# Altium schematic symbol library MCU_ST_STM32H7.SchLib: 225 symbols (part 4 of 9)
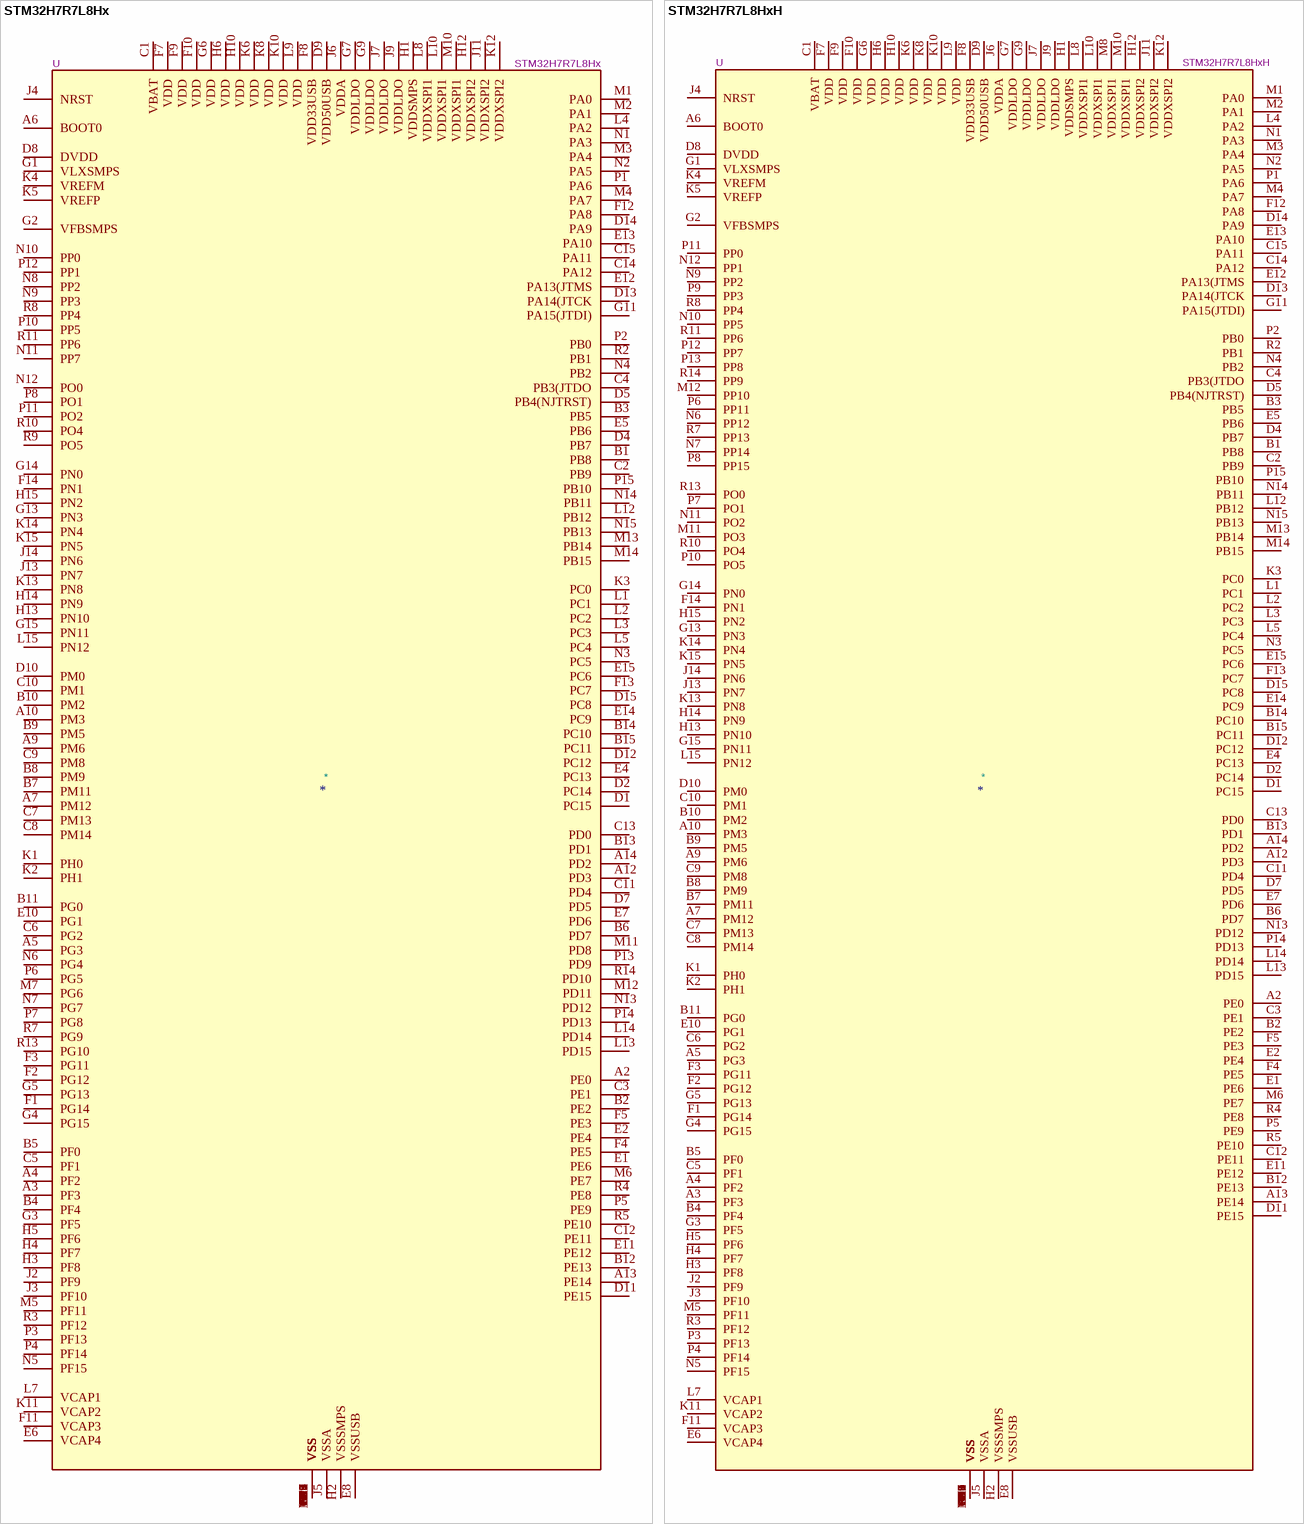
[diagram p90: symbols STM32H7R7L8Hx to STM32H7R7L8HxH]

## STM32H7R7L8HxH
designator *  value STM32H7R7L8HxH  Reference: U
STMicroelectronics Arm Cortex-M7 MCU, 64KB flash, 620KB RAM, 150 GPIO, TFBGA225 HEXA SMPS; ki_keywords: Arm Cortex-M7 STM32H7 STM32H7R7/7S7; ki_fp_filters: ST*TFBGA*13x13mm*Layout15x15*P0.8mm*; Footprint: Package_BGA:ST_TFBGA-225_13x13mm_Layout15x15_P0.8mm; Datasheet: https://www.st.com/resource/en/datasheet/stm32h7r7l8.pdf; Description_: STMicroelectronics Arm Cortex-M7 MCU, 64KB flash, 620KB RAM, 150 GPIO, TFBGA225 HEXA SMPS
pins: A1 VSS, A2 PE0, A3 PF3, A4 PF2, A5 PG3, A6 BOOT0, A7 PM12, A8 VSS, A9 PM6, A10 PM3, A11 VSS, A12 PD3, A13 PE14, A14 PD2, A15 VSS, B1 PB8, B2 PE2, B3 PB5, B4 PF4, B5 PF0, B6 PD7, B7 PM11, B8 PM9, B9 PM5, B10 PM2, B11 PG0, B12 PE13, B13 PD1, B14 PC10, B15 PC11, C1 VBAT, C2 PB9, C3 PE1, C4 PB3(JTDO, C5 PF1, C6 PG2, C7 PM13, C8 PM14, C9 PM8, C10 PM1, C11 PD4, C12 PE11, C13 PD0, C14 PA12, C15 PA11, D1 PC15, D2 PC14, D3 VSS, D4 PB7, D5 PB4(NJTRST), D6 VSS, D7 PD5, D8 DVDD, D9 VDD50USB, D10 PM0, D11 PE15, D12 PC12, D13 PA14(JTCK, D14 PA9, D15 PC8, E1 PE6, E2 PE4, E3 VSS, E4 PC13, E5 PB6, E6 VCAP4, E7 PD6, E8 VSSUSB, E9 VSS, E10 PG1, E11 PE12, E12 PA13(JTMS, E13 PA10, E14 PC9, E15 PC6, F1 PG14, F2 PG12, F3 PG11, F4 PE5, F5 PE3, F6 VSS, F7 VDD, F8 VDD33USB, F9 VDD, F10 VDD, F11 VCAP3, F12 PA8, F13 PC7, F14 PN1, F15 VSS, G1 VLXSMPS, G2 VFBSMPS, G3 PF5, G4 PG15, G5 PG13, G6 VDD, G7 VDDLDO, G8 VSS, G9 VDDLDO, G10 VSS, G11 PA15(JTDI), G12 VSS, G13 PN3, G14 PN0, G15 PN11, H1 VDDSMPS, H2 VSSSMPS, H3 PF8, H4 PF7, H5 PF6, H6 VDD, H7 VSS, H8 VSS, H9 VSS, H10 VDD, H11 VSS, H12 VDDXSPI2, H13 PN10, H14 PN9, H15 PN2, J1 VSS, J2 PF9, J3 PF10, J4 NRST, J5 VSSA, J6 VDDA, J7 VDDLDO, J8 VSS, J9 VDDLDO, J10 VSS, J11 VDDXSPI2, J12 VSS, J13 PN7, J14 PN6, J15 VSS, K1 PH0, K2 PH1, K3 PC0, K4 VREFM, K5 VREFP, K6 VDD, K7 VSS, K8 VDD, K9 VSS, K10 VDD, K11 VCAP2, K12 VDDXSPI2, K13 PN8, K14 PN4, K15 PN5, L1 PC1, L2 PC2, L3 PC3, L4 PA2, L5 PC4, L6 VSS, L7 VCAP1, L8 VDDXSPI1, L9 VDD, L10 VDDXSPI1, L11 VSS, L12 PB12, L13 PD15, L14 PD14, L15 PN12, M1 PA0, M2 PA1, M3 PA4, M4 PA7, M5 PF11, M6 PE7, M7 VSS, M8 VDDXSPI1, M9 VSS, M10 VDDXSPI1, M11 PO3, M12 PP10, M13 PB14, M14 PB15, M15 VSS, N1 PA3, N2 PA5, N3 PC5, N4 PB2, N5 PF15, N6 PP12, N7 PP14, N8 VSS, N9 PP2, N10 PP5, N11 PO2, N12 PP1, N13 PD12, N14 PB11, N15 PB13, P1 PA6, P2 PB0, P3 PF13, P4 PF14, P5 PE9, P6 PP11, P7 PO1, P8 PP15, P9 PP3, P10 PO5, P11 PP0, P12 PP7, P13 PP8, P14 PD13, P15 PB10, R1 VSS, R2 PB1, R3 PF12, R4 PE8, R5 PE10, R6 VSS, R7 PP13, R8 PP4, R9 VSS, R10 PO4, R11 PP6, R12 VSS, R13 PO0, R14 PP9, R15 VSS

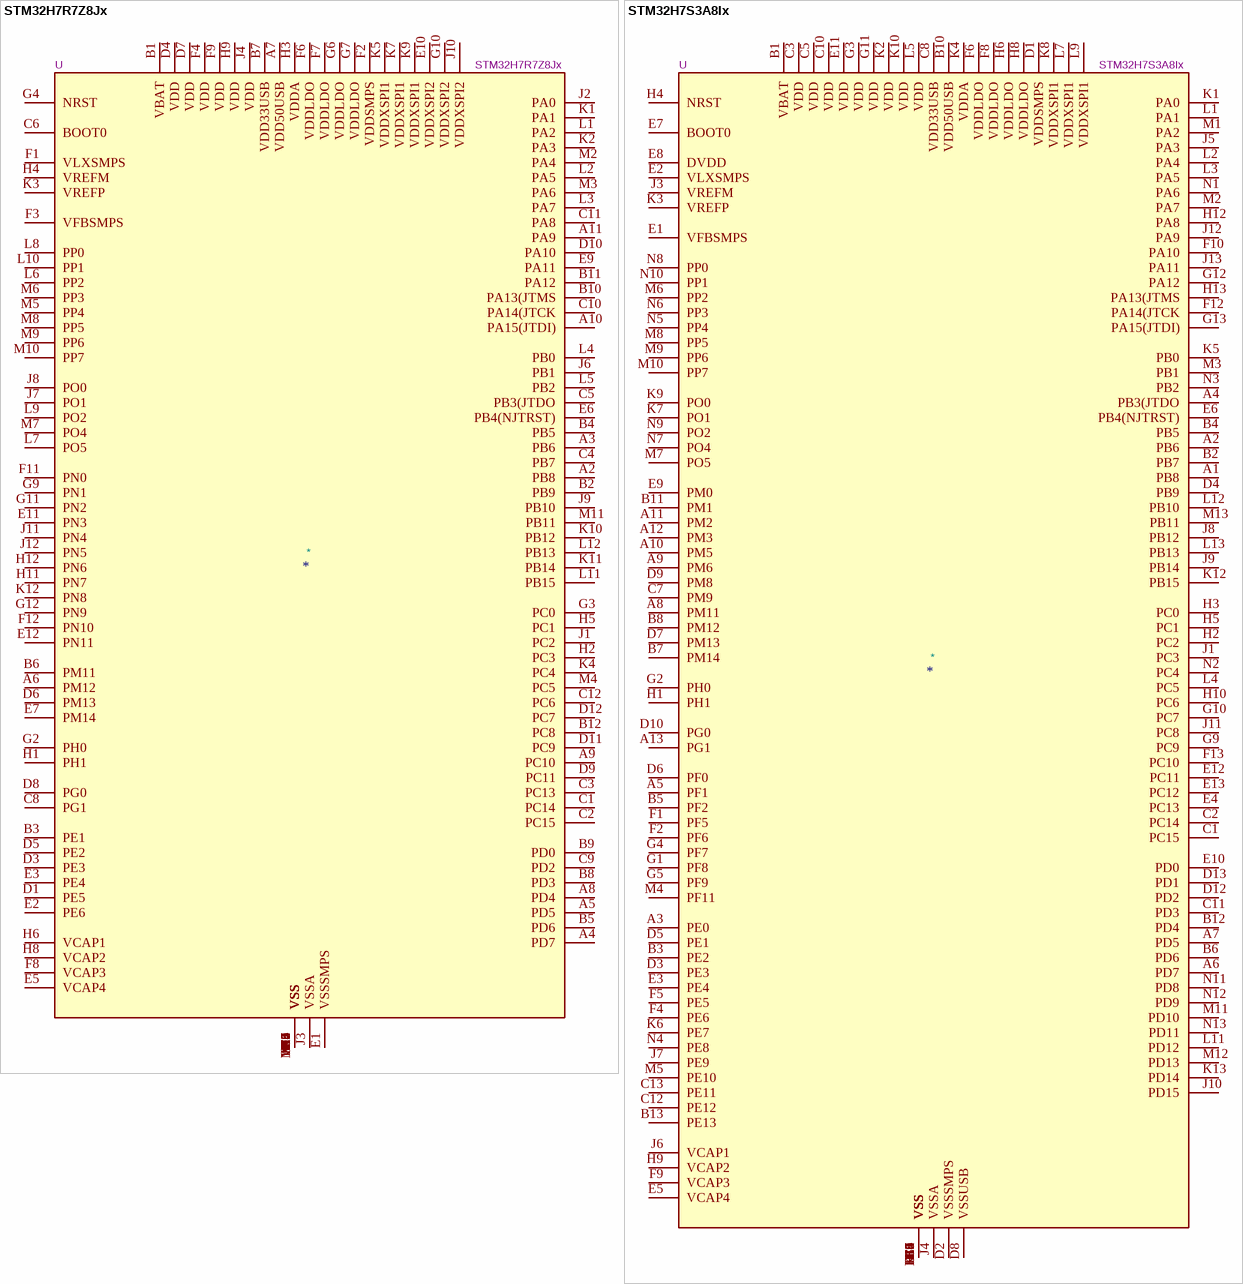
[diagram p30: symbols STM32H7R7Z8Jx to STM32H7S3A8Ix]

## STM32H7R7Z8Jx
designator *  value STM32H7R7Z8Jx  Reference: U
STMicroelectronics Arm Cortex-M7 MCU, 64KB flash, 620KB RAM, 600 MHz, 93 GPIO, UFBGA144; ki_keywords: Arm Cortex-M7 STM32H7 STM32H7R7/7S7; ki_fp_filters: UFBGA*10x10mm*Layout12x12*P0.8mm*; Footprint: Package_BGA:UFBGA-144_10x10mm_Layout12x12_P0.8mm; Datasheet: https://www.st.com/resource/en/datasheet/stm32h7r7z8.pdf; Description_: STMicroelectronics Arm Cortex-M7 MCU, 64KB flash, 620KB RAM, 600 MHz, 93 GPIO, UFBGA144
pins: A1 VSS, A2 PB8, A3 PB6, A4 PD7, A5 PD5, A6 PM12, A7 VDD50USB, A8 PD4, A9 PC10, A10 PA15(JTDI), A11 PA9, A12 VSS, B1 VBAT, B2 PB9, B3 PE1, B4 PB5, B5 PD6, B6 PM11, B7 VDD33USB, B8 PD3, B9 PD0, B10 PA13(JTMS, B11 PA12, B12 PC8, C1 PC14, C2 PC15, C3 PC13, C4 PB7, C5 PB3(JTDO, C6 BOOT0, C7 VSS, C8 PG1, C9 PD2, C10 PA14(JTCK, C11 PA8, C12 PC6, D1 PE5, D2 VSS, D3 PE3, D4 VDD, D5 PE2, D6 PM13, D7 VDD, D8 PG0, D9 PC11, D10 PA10, D11 PC9, D12 PC7, E1 VSSSMPS, E2 PE6, E3 PE4, E4 VSS, E5 VCAP4, E6 PB4(NJTRST), E7 PM14, E8 VSS, E9 PA11, E10 VDDXSPI2, E11 PN3, E12 PN11, F1 VLXSMPS, F2 VDDSMPS, F3 VFBSMPS, F4 VDD, F5 VSS, F6 VDDLDO, F7 VDDLDO, F8 VCAP3, F9 VDD, F10 VSS, F11 PN0, F12 PN10, G1 VSS, G2 PH0, G3 PC0, G4 NRST, G5 VSS, G6 VDDLDO, G7 VDDLDO, G8 VSS, G9 PN1, G10 VDDXSPI2, G11 PN2, G12 PN9, H1 PH1, H2 PC3, H3 VDDA, H4 VREFM, H5 PC1, H6 VCAP1, H7 VSS, H8 VCAP2, H9 VDD, H10 VSS, H11 PN7, H12 PN6, J1 PC2, J2 PA0, J3 VSSA, J4 VDD, J5 VSS, J6 PB1, J7 PO1, J8 PO0, J9 PB10, J10 VDDXSPI2, J11 PN4, J12 PN5, K1 PA1, K2 PA3, K3 VREFP, K4 PC4, K5 VDDXSPI1, K6 VSS, K7 VDDXSPI1, K8 VSS, K9 VDDXSPI1, K10 PB12, K11 PB14, K12 PN8, L1 PA2, L2 PA5, L3 PA7, L4 PB0, L5 PB2, L6 PP2, L7 PO5, L8 PP0, L9 PO2, L10 PP1, L11 PB15, L12 PB13, M1 VSS, M2 PA4, M3 PA6, M4 PC5, M5 PP4, M6 PP3, M7 PO4, M8 PP5, M9 PP6, M10 PP7, M11 PB11, M12 VSS

## STM32H7S3A8Ix
designator *  value STM32H7S3A8Ix  Reference: U
STMicroelectronics Arm Cortex-M7 MCU, 64KB flash, 620KB RAM, 600 MHz, 3.6-3.6V, 116 GPIO, UFBGA169; ki_keywords: Arm Cortex-M7 STM32H7 STM32H7R3/7S3; ki_fp_filters: UFBGA*7x7mm*Layout13x13*P0.5mm*; Footprint: Package_BGA:UFBGA-169_7x7mm_Layout13x13_P0.5mm; Datasheet: https://www.st.com/resource/en/datasheet/stm32h7s3a8.pdf; Description_: STMicroelectronics Arm Cortex-M7 MCU, 64KB flash, 620KB RAM, 600 MHz, 3.6-3.6V, 116 GPIO, UFBGA169
pins: A1 PB8, A2 PB6, A3 PE0, A4 PB3(JTDO, A5 PF1, A6 PD7, A7 PD5, A8 PM11, A9 PM6, A10 PM5, A11 PM2, A12 PM3, A13 PG1, B1 VBAT, B2 PB7, B3 PE2, B4 PB5, B5 PF2, B6 PD6, B7 PM14, B8 PM12, B9 VSS, B10 VDD50USB, B11 PM1, B12 PD4, B13 PE13, C1 PC15, C2 PC14, C3 VDD, C4 VSS, C5 VDD, C6 VSS, C7 PM9, C8 VDD33USB, C9 VSS, C10 VDD, C11 PD3, C12 PE12, C13 PE11, D1 VDDSMPS, D2 VSSSMPS, D3 PE3, D4 PB9, D5 PE1, D6 PF0, D7 PM13, D8 VSSUSB, D9 PM8, D10 PG0, D11 VSS, D12 PD2, D13 PD1, E1 VFBSMPS, E2 VLXSMPS, E3 PE4, E4 PC13, E5 VCAP4, E6 PB4(NJTRST), E7 BOOT0, E8 DVDD, E9 PM0, E10 PD0, E11 VDD, E12 PC11, E13 PC12, F1 PF5, F2 PF6, F3 VSS, F4 PE6, F5 PE5, F6 VDDLDO, F7 VSS, F8 VDDLDO, F9 VCAP3, F10 PA10, F11 VSS, F12 PA14(JTCK, F13 PC10, G1 PF8, G2 PH0, G3 VDD, G4 PF7, G5 PF9, G6 VSS, G7 VSS, G8 VSS, G9 PC9, G10 PC7, G11 VDD, G12 PA12, G13 PA15(JTDI), H1 PH1, H2 PC2, H3 PC0, H4 NRST, H5 PC1, H6 VDDLDO, H7 VSS, H8 VDDLDO, H9 VCAP2, H10 PC6, H11 VSS, H12 PA8, H13 PA13(JTMS, J1 PC3, J2 VSS, J3 VREFM, J4 VSSA, J5 PA3, J6 VCAP1, J7 PE9, J8 PB12, J9 PB14, J10 PD15, J11 PC8, J12 PA9, J13 PA11, K1 PA0, K2 VDD, K3 VREFP, K4 VDDA, K5 PB0, K6 PE7, K7 PO1, K8 VDDXSPI1, K9 PO0, K10 VDD, K11 VSS, K12 PB15, K13 PD14, L1 PA1, L2 PA4, L3 PA5, L4 PC5, L5 VDD, L6 VSS, L7 VDDXSPI1, L8 VSS, L9 VDDXSPI1, L10 VSS, L11 PD12, L12 PB10, L13 PB13, M1 PA2, M2 PA7, M3 PB1, M4 PF11, M5 PE10, M6 PP2, M7 PO5, M8 PP5, M9 PP6, M10 PP7, M11 PD10, M12 PD13, M13 PB11, N1 PA6, N2 PC4, N3 PB2, N4 PE8, N5 PP4, N6 PP3, N7 PO4, N8 PP0, N9 PO2, N10 PP1, N11 PD8, N12 PD9, N13 PD11

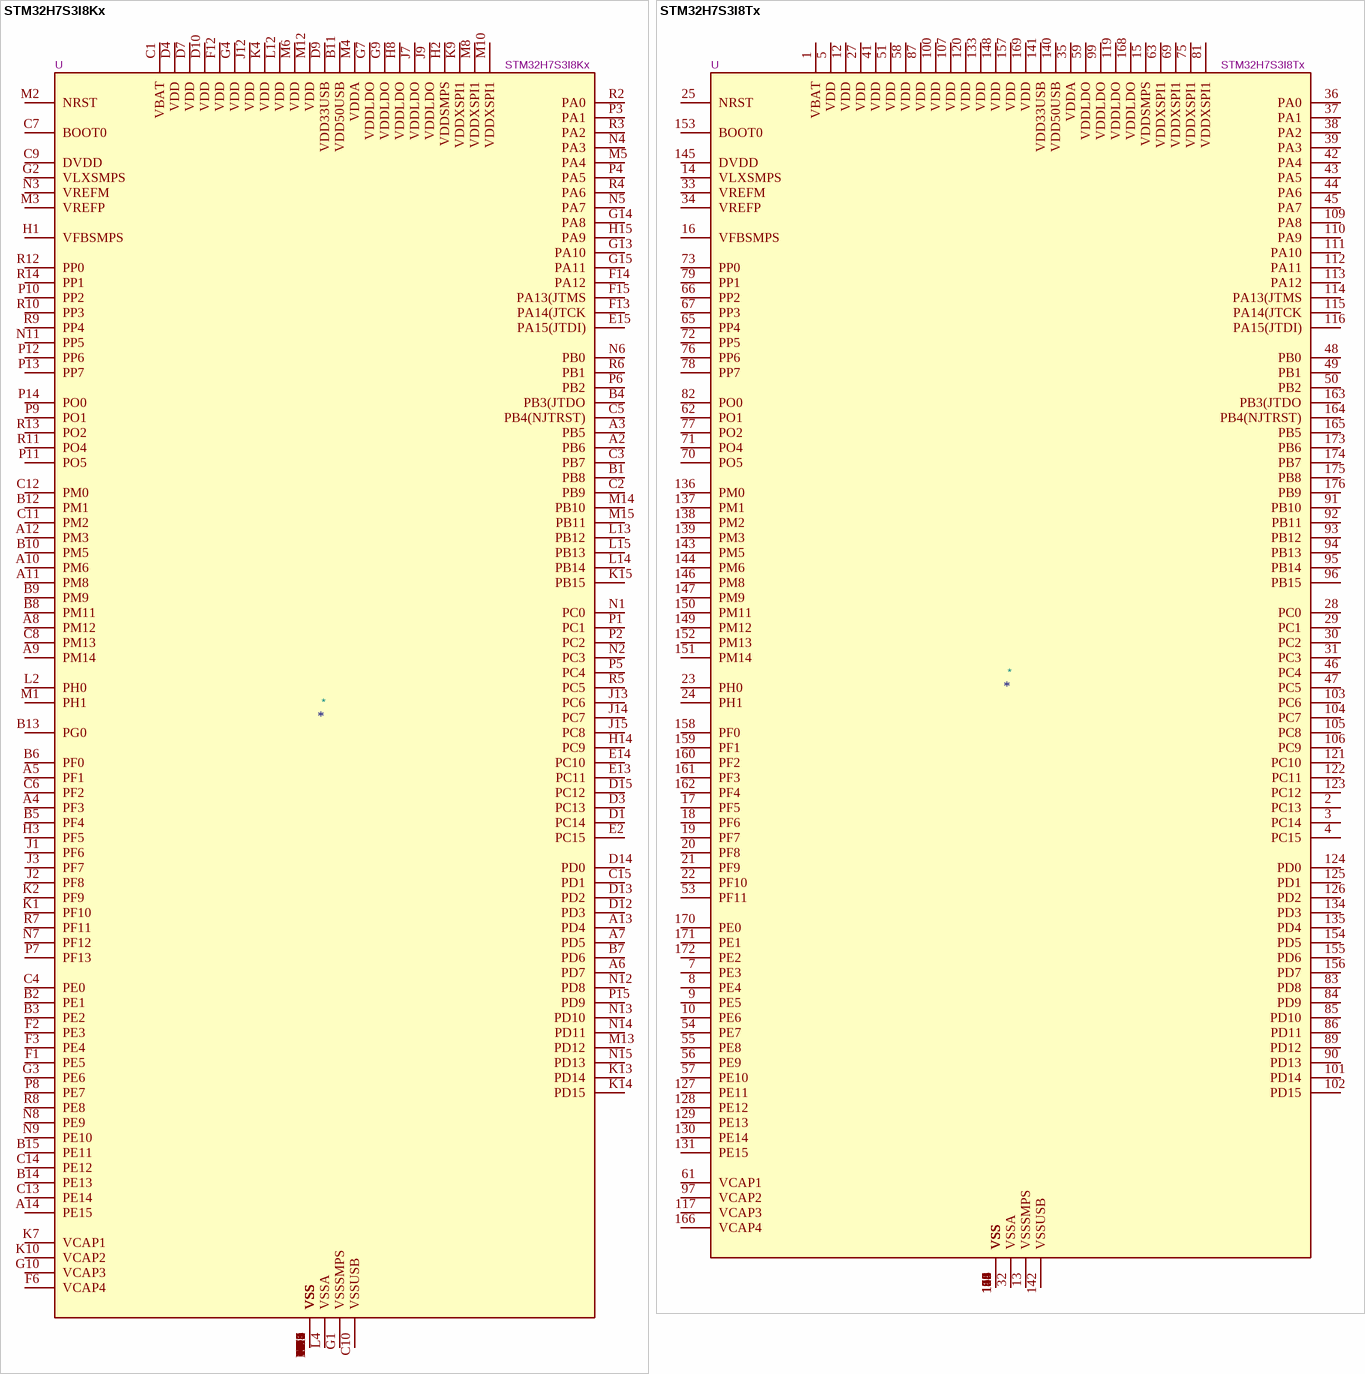
[diagram p31: symbols STM32H7S3I8Kx to STM32H7S3I8Tx]

## STM32H7S3I8Kx
designator *  value STM32H7S3I8Kx  Reference: U
STMicroelectronics Arm Cortex-M7 MCU, 64KB flash, 620KB RAM, 600 MHz, 3.6-3.6V, 122 GPIO, UFBGA176; ki_keywords: Arm Cortex-M7 STM32H7 STM32H7R3/7S3; ki_fp_filters: UFBGA*10x10mm*Layout15x15*P0.65mm*; Footprint: Package_BGA:UFBGA-201_10x10mm_Layout15x15_P0.65mm; Datasheet: https://www.st.com/resource/en/datasheet/stm32h7s3i8.pdf; Description_: STMicroelectronics Arm Cortex-M7 MCU, 64KB flash, 620KB RAM, 600 MHz, 3.6-3.6V, 122 GPIO, UFBGA176
pins: A1 VSS, A2 PB6, A3 PB5, A4 PF3, A5 PF1, A6 PD7, A7 PD5, A8 PM12, A9 PM14, A10 PM6, A11 PM8, A12 PM3, A13 PD4, A14 PE15, A15 VSS, B1 PB8, B2 PE1, B3 PE2, B4 PB3(JTDO, B5 PF4, B6 PF0, B7 PD6, B8 PM11, B9 PM9, B10 PM5, B11 VDD50USB, B12 PM1, B13 PG0, B14 PE13, B15 PE11, C1 VBAT, C2 PB9, C3 PB7, C4 PE0, C5 PB4(NJTRST), C6 PF2, C7 BOOT0, C8 PM13, C9 DVDD, C10 VSSUSB, C11 PM2, C12 PM0, C13 PE14, C14 PE12, C15 PD1, D1 PC14, D2 VSS, D3 PC13, D4 VDD, D5 VSS, D6 VSS, D7 VDD, D8 VSS, D9 VDD33USB, D10 VDD, D11 VSS, D12 PD3, D13 PD2, D14 PD0, D15 PC12, E1 VSS, E2 PC15, E3 VSS, E4 VSS, E12 VSS, E13 PC11, E14 PC10, E15 PA15(JTDI), F1 PE5, F2 PE3, F3 PE4, F4 VSS, F6 VCAP4, F7 VSS, F8 VSS, F9 VSS, F10 VSS, F12 VDD, F13 PA14(JTCK, F14 PA12, F15 PA13(JTMS, G1 VSSSMPS, G2 VLXSMPS, G3 PE6, G4 VDD, G6 VSS, G7 VDDLDO, G8 VSS, G9 VDDLDO, G10 VCAP3, G12 VSS, G13 PA10, G14 PA8, G15 PA11, H1 VFBSMPS, H2 VDDSMPS, H3 PF5, H4 VSS, H6 VSS, H7 VSS, H8 VDDLDO, H9 VSS, H10 VSS, H12 VSS, H13 VSS, H14 PC9, H15 PA9, J1 PF6, J2 PF8, J3 PF7, J4 VSS, J6 VSS, J7 VDDLDO, J8 VSS, J9 VDDLDO, J10 VSS, J12 VDD, J13 PC6, J14 PC7, J15 PC8, K1 PF10, K2 PF9, K3 VSS, K4 VDD, K6 VSS, K7 VCAP1, K8 VSS, K9 VDDXSPI1, K10 VCAP2, K12 VSS, K13 PD14, K14 PD15, K15 PB15, L1 VSS, L2 PH0, L3 VSS, L4 VSSA, L12 VDD, L13 PB12, L14 PB14, L15 PB13, M1 PH1, M2 NRST, M3 VREFP, M4 VDDA, M5 PA4, M6 VDD, M7 VSS, M8 VDDXSPI1, M9 VSS, M10 VDDXSPI1, M11 VSS, M12 VDD, M13 PD12, M14 PB10, M15 PB11, N1 PC0, N2 PC3, N3 VREFM, N4 PA3, N5 PA7, N6 PB0, N7 PF12, N8 PE9, N9 PE10, N10 VSS, N11 PP5, N12 PD8, N13 PD10, N14 PD11, N15 PD13, P1 PC1, P2 PC2, P3 PA1, P4 PA5, P5 PC4, P6 PB2, P7 PF13, P8 PE7, P9 PO1, P10 PP2, P11 PO5, P12 PP6, P13 PP7, P14 PO0, P15 PD9, R1 VSS, R2 PA0, R3 PA2, R4 PA6, R5 PC5, R6 PB1, R7 PF11, R8 PE8, R9 PP4, R10 PP3, R11 PO4, R12 PP0, R13 PO2, R14 PP1, R15 VSS

## STM32H7S3I8Tx
designator *  value STM32H7S3I8Tx  Reference: U
STMicroelectronics Arm Cortex-M7 MCU, 64KB flash, 620KB RAM, 119 GPIO, LQFP176; ki_keywords: Arm Cortex-M7 STM32H7 STM32H7R3/7S3; ki_fp_filters: LQFP*24x24mm*P0.5mm*; Footprint: Package_QFP:LQFP-176_24x24mm_P0.5mm; Datasheet: https://www.st.com/resource/en/datasheet/stm32h7s3i8.pdf; Description_: STMicroelectronics Arm Cortex-M7 MCU, 64KB flash, 620KB RAM, 119 GPIO, LQFP176
pins: 1 VBAT, 2 PC13, 3 PC14, 4 PC15, 5 VDD, 6 VSS, 7 PE3, 8 PE4, 9 PE5, 10 PE6, 11 VSS, 12 VDD, 13 VSSSMPS, 14 VLXSMPS, 15 VDDSMPS, 16 VFBSMPS, 17 PF5, 18 PF6, 19 PF7, 20 PF8, 21 PF9, 22 PF10, 23 PH0, 24 PH1, 25 NRST, 26 VSS, 27 VDD, 28 PC0, 29 PC1, 30 PC2, 31 PC3, 32 VSSA, 33 VREFM, 34 VREFP, 35 VDDA, 36 PA0, 37 PA1, 38 PA2, 39 PA3, 40 VSS, 41 VDD, 42 PA4, 43 PA5, 44 PA6, 45 PA7, 46 PC4, 47 PC5, 48 PB0, 49 PB1, 50 PB2, 51 VDD, 52 VSS, 53 PF11, 54 PE7, 55 PE8, 56 PE9, 57 PE10, 58 VDD, 59 VDDLDO, 60 VSS, 61 VCAP1, 62 PO1, 63 VDDXSPI1, 64 VSS, 65 PP4, 66 PP2, 67 PP3, 68 VSS, 69 VDDXSPI1, 70 PO5, 71 PO4, 72 PP5, 73 PP0, 74 VSS, 75 VDDXSPI1, 76 PP6, 77 PO2, 78 PP7, 79 PP1, 80 VSS, 81 VDDXSPI1, 82 PO0, 83 PD8, 84 PD9, 85 PD10, 86 PD11, 87 VDD, 88 VSS, 89 PD12, 90 PD13, 91 PB10, 92 PB11, 93 PB12, 94 PB13, 95 PB14, 96 PB15, 97 VCAP2, 98 VSS, 99 VDDLDO, 100 VDD, 101 PD14, 102 PD15, 103 PC6, 104 PC7, 105 PC8, 106 PC9, 107 VDD, 108 VSS, 109 PA8, 110 PA9, 111 PA10, 112 PA11, 113 PA12, 114 PA13(JTMS, 115 PA14(JTCK, 116 PA15(JTDI), 117 VCAP3, 118 VSS, 119 VDDLDO, 120 VDD, 121 PC10, 122 PC11, 123 PC12, 124 PD0, 125 PD1, 126 PD2, 127 PE11, 128 PE12, 129 PE13, 130 PE14, 131 PE15, 132 VSS, 133 VDD, 134 PD3, 135 PD4, 136 PM0, 137 PM1, 138 PM2, 139 PM3, 140 VDD50USB, 141 VDD33USB, 142 VSSUSB, 143 PM5, 144 PM6, 145 DVDD, 146 PM8, 147 PM9, 148 VDD, 149 PM12, 150 PM11, 151 PM14, 152 PM13, 153 BOOT0, 154 PD5, 155 PD6, 156 PD7, 157 VDD, 158 PF0, 159 PF1, 160 PF2, 161 PF3, 162 PF4, 163 PB3(JTDO, 164 PB4(NJTRST), 165 PB5, 166 VCAP4, 167 VSS, 168 VDDLDO, 169 VDD, 170 PE0, 171 PE1, 172 PE2, 173 PB6, 174 PB7, 175 PB8, 176 PB9

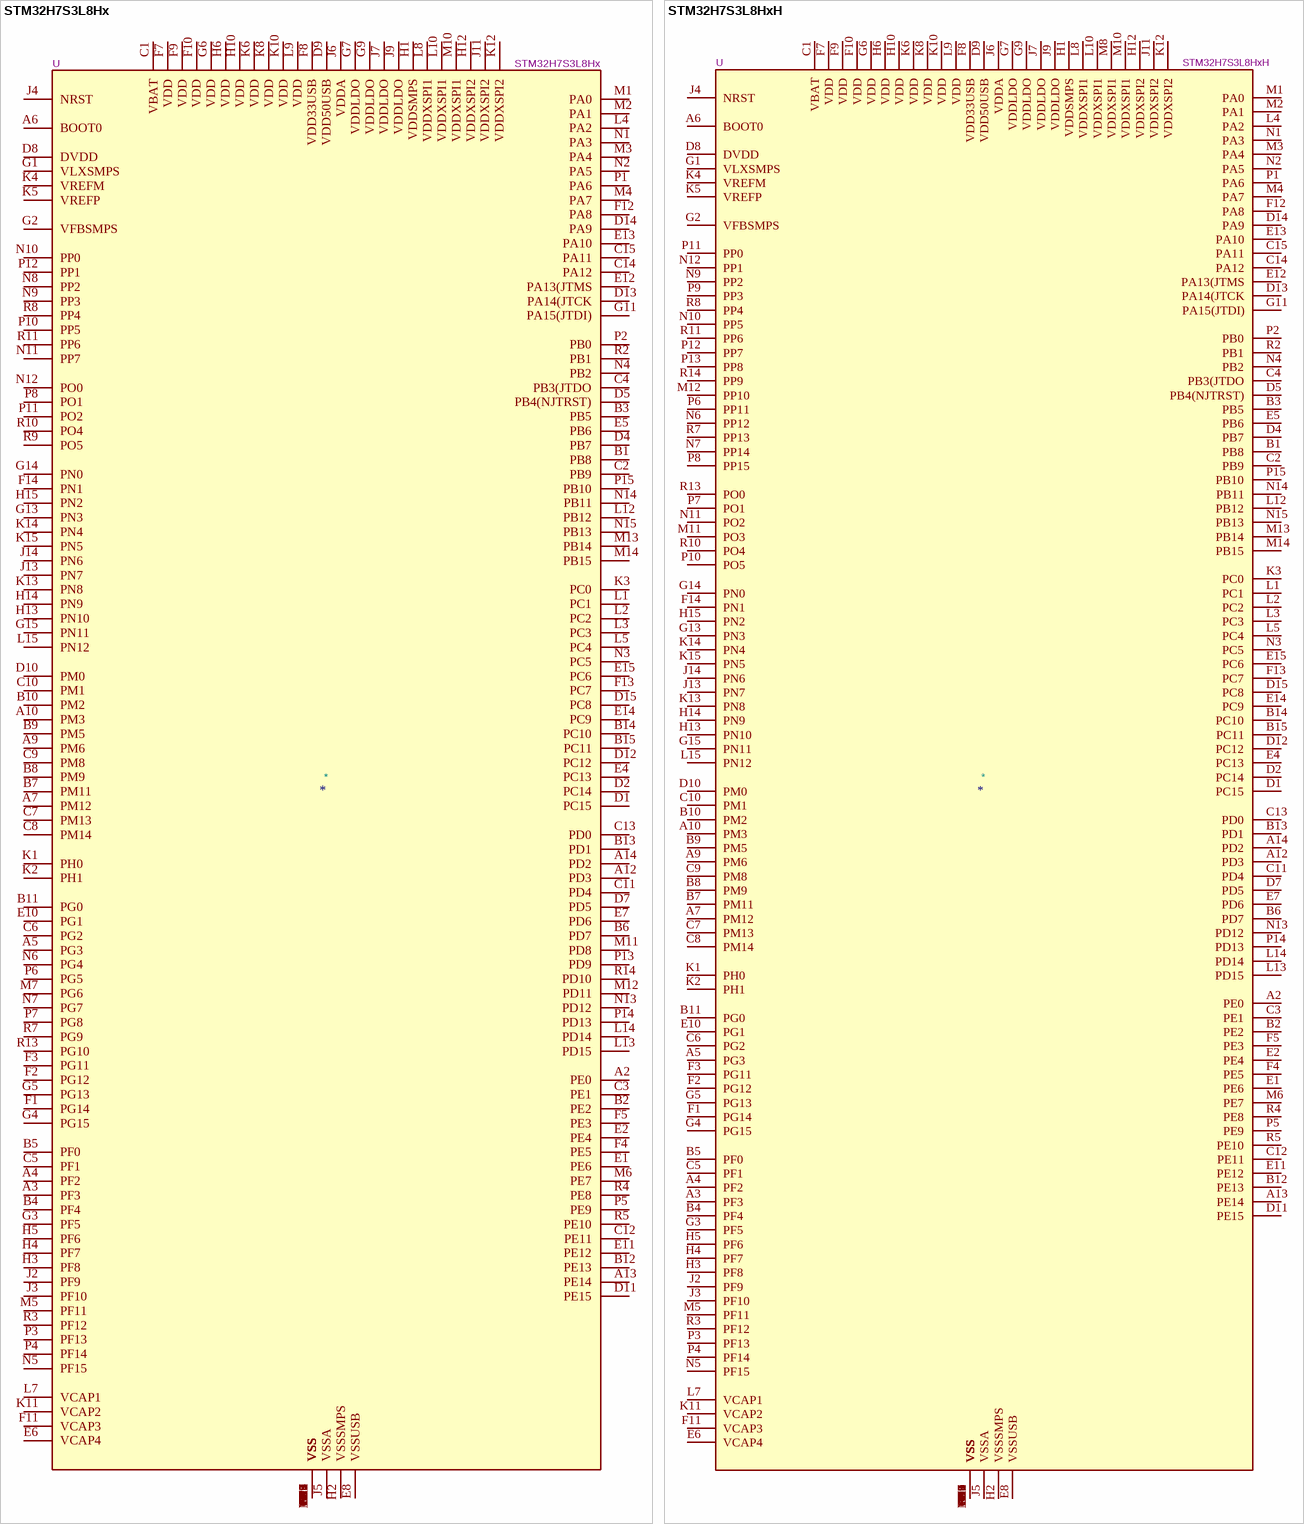
[diagram p32: symbols STM32H7S3L8Hx to STM32H7S3L8HxH]

## STM32H7S3L8Hx
designator *  value STM32H7S3L8Hx  Reference: U
STMicroelectronics Arm Cortex-M7 MCU, 64KB flash, 620KB RAM, 152 GPIO, TFBGA225 OCTO SMPS; ki_keywords: Arm Cortex-M7 STM32H7 STM32H7R3/7S3; ki_fp_filters: ST*TFBGA*13x13mm*Layout15x15*P0.8mm*; Footprint: Package_BGA:ST_TFBGA-225_13x13mm_Layout15x15_P0.8mm; Datasheet: https://www.st.com/resource/en/datasheet/stm32h7s3l8.pdf; Description_: STMicroelectronics Arm Cortex-M7 MCU, 64KB flash, 620KB RAM, 152 GPIO, TFBGA225 OCTO SMPS
pins: A1 VSS, A2 PE0, A3 PF3, A4 PF2, A5 PG3, A6 BOOT0, A7 PM12, A8 VSS, A9 PM6, A10 PM3, A11 VSS, A12 PD3, A13 PE14, A14 PD2, A15 VSS, B1 PB8, B2 PE2, B3 PB5, B4 PF4, B5 PF0, B6 PD7, B7 PM11, B8 PM9, B9 PM5, B10 PM2, B11 PG0, B12 PE13, B13 PD1, B14 PC10, B15 PC11, C1 VBAT, C2 PB9, C3 PE1, C4 PB3(JTDO, C5 PF1, C6 PG2, C7 PM13, C8 PM14, C9 PM8, C10 PM1, C11 PD4, C12 PE11, C13 PD0, C14 PA12, C15 PA11, D1 PC15, D2 PC14, D3 VSS, D4 PB7, D5 PB4(NJTRST), D6 VSS, D7 PD5, D8 DVDD, D9 VDD50USB, D10 PM0, D11 PE15, D12 PC12, D13 PA14(JTCK, D14 PA9, D15 PC8, E1 PE6, E2 PE4, E3 VSS, E4 PC13, E5 PB6, E6 VCAP4, E7 PD6, E8 VSSUSB, E9 VSS, E10 PG1, E11 PE12, E12 PA13(JTMS, E13 PA10, E14 PC9, E15 PC6, F1 PG14, F2 PG12, F3 PG11, F4 PE5, F5 PE3, F6 VSS, F7 VDD, F8 VDD33USB, F9 VDD, F10 VDD, F11 VCAP3, F12 PA8, F13 PC7, F14 PN1, F15 VSS, G1 VLXSMPS, G2 VFBSMPS, G3 PF5, G4 PG15, G5 PG13, G6 VDD, G7 VDDLDO, G8 VSS, G9 VDDLDO, G10 VSS, G11 PA15(JTDI), G12 VSS, G13 PN3, G14 PN0, G15 PN11, H1 VDDSMPS, H2 VSSSMPS, H3 PF8, H4 PF7, H5 PF6, H6 VDD, H7 VSS, H8 VSS, H9 VSS, H10 VDD, H11 VSS, H12 VDDXSPI2, H13 PN10, H14 PN9, H15 PN2, J1 VSS, J2 PF9, J3 PF10, J4 NRST, J5 VSSA, J6 VDDA, J7 VDDLDO, J8 VSS, J9 VDDLDO, J10 VSS, J11 VDDXSPI2, J12 VSS, J13 PN7, J14 PN6, J15 VSS, K1 PH0, K2 PH1, K3 PC0, K4 VREFM, K5 VREFP, K6 VDD, K7 VSS, K8 VDD, K9 VSS, K10 VDD, K11 VCAP2, K12 VDDXSPI2, K13 PN8, K14 PN4, K15 PN5, L1 PC1, L2 PC2, L3 PC3, L4 PA2, L5 PC4, L6 VSS, L7 VCAP1, L8 VDDXSPI1, L9 VDD, L10 VDDXSPI1, L11 VSS, L12 PB12, L13 PD15, L14 PD14, L15 PN12, M1 PA0, M2 PA1, M3 PA4, M4 PA7, M5 PF11, M6 PE7, M7 PG6, M8 VSS, M9 VSS, M10 VDDXSPI1, M11 PD8, M12 PD11, M13 PB14, M14 PB15, M15 VSS, N1 PA3, N2 PA5, N3 PC5, N4 PB2, N5 PF15, N6 PG4, N7 PG7, N8 PP2, N9 PP3, N10 PP0, N11 PP7, N12 PO0, N13 PD12, N14 PB11, N15 PB13, P1 PA6, P2 PB0, P3 PF13, P4 PF14, P5 PE9, P6 PG5, P7 PG8, P8 PO1, P9 VSS, P10 PP5, P11 PO2, P12 PP1, P13 PD9, P14 PD13, P15 PB10, R1 VSS, R2 PB1, R3 PF12, R4 PE8, R5 PE10, R6 VSS, R7 PG9, R8 PP4, R9 PO5, R10 PO4, R11 PP6, R12 VSS, R13 PG10, R14 PD10, R15 VSS

## STM32H7S3L8HxH
designator *  value STM32H7S3L8HxH  Reference: U
STMicroelectronics Arm Cortex-M7 MCU, 64KB flash, 620KB RAM, 150 GPIO, TFBGA225 HEXA SMPS; ki_keywords: Arm Cortex-M7 STM32H7 STM32H7R3/7S3; ki_fp_filters: ST*TFBGA*13x13mm*Layout15x15*P0.8mm*; Footprint: Package_BGA:ST_TFBGA-225_13x13mm_Layout15x15_P0.8mm; Datasheet: https://www.st.com/resource/en/datasheet/stm32h7s3l8.pdf; Description_: STMicroelectronics Arm Cortex-M7 MCU, 64KB flash, 620KB RAM, 150 GPIO, TFBGA225 HEXA SMPS
pins: A1 VSS, A2 PE0, A3 PF3, A4 PF2, A5 PG3, A6 BOOT0, A7 PM12, A8 VSS, A9 PM6, A10 PM3, A11 VSS, A12 PD3, A13 PE14, A14 PD2, A15 VSS, B1 PB8, B2 PE2, B3 PB5, B4 PF4, B5 PF0, B6 PD7, B7 PM11, B8 PM9, B9 PM5, B10 PM2, B11 PG0, B12 PE13, B13 PD1, B14 PC10, B15 PC11, C1 VBAT, C2 PB9, C3 PE1, C4 PB3(JTDO, C5 PF1, C6 PG2, C7 PM13, C8 PM14, C9 PM8, C10 PM1, C11 PD4, C12 PE11, C13 PD0, C14 PA12, C15 PA11, D1 PC15, D2 PC14, D3 VSS, D4 PB7, D5 PB4(NJTRST), D6 VSS, D7 PD5, D8 DVDD, D9 VDD50USB, D10 PM0, D11 PE15, D12 PC12, D13 PA14(JTCK, D14 PA9, D15 PC8, E1 PE6, E2 PE4, E3 VSS, E4 PC13, E5 PB6, E6 VCAP4, E7 PD6, E8 VSSUSB, E9 VSS, E10 PG1, E11 PE12, E12 PA13(JTMS, E13 PA10, E14 PC9, E15 PC6, F1 PG14, F2 PG12, F3 PG11, F4 PE5, F5 PE3, F6 VSS, F7 VDD, F8 VDD33USB, F9 VDD, F10 VDD, F11 VCAP3, F12 PA8, F13 PC7, F14 PN1, F15 VSS, G1 VLXSMPS, G2 VFBSMPS, G3 PF5, G4 PG15, G5 PG13, G6 VDD, G7 VDDLDO, G8 VSS, G9 VDDLDO, G10 VSS, G11 PA15(JTDI), G12 VSS, G13 PN3, G14 PN0, G15 PN11, H1 VDDSMPS, H2 VSSSMPS, H3 PF8, H4 PF7, H5 PF6, H6 VDD, H7 VSS, H8 VSS, H9 VSS, H10 VDD, H11 VSS, H12 VDDXSPI2, H13 PN10, H14 PN9, H15 PN2, J1 VSS, J2 PF9, J3 PF10, J4 NRST, J5 VSSA, J6 VDDA, J7 VDDLDO, J8 VSS, J9 VDDLDO, J10 VSS, J11 VDDXSPI2, J12 VSS, J13 PN7, J14 PN6, J15 VSS, K1 PH0, K2 PH1, K3 PC0, K4 VREFM, K5 VREFP, K6 VDD, K7 VSS, K8 VDD, K9 VSS, K10 VDD, K11 VCAP2, K12 VDDXSPI2, K13 PN8, K14 PN4, K15 PN5, L1 PC1, L2 PC2, L3 PC3, L4 PA2, L5 PC4, L6 VSS, L7 VCAP1, L8 VDDXSPI1, L9 VDD, L10 VDDXSPI1, L11 VSS, L12 PB12, L13 PD15, L14 PD14, L15 PN12, M1 PA0, M2 PA1, M3 PA4, M4 PA7, M5 PF11, M6 PE7, M7 VSS, M8 VDDXSPI1, M9 VSS, M10 VDDXSPI1, M11 PO3, M12 PP10, M13 PB14, M14 PB15, M15 VSS, N1 PA3, N2 PA5, N3 PC5, N4 PB2, N5 PF15, N6 PP12, N7 PP14, N8 VSS, N9 PP2, N10 PP5, N11 PO2, N12 PP1, N13 PD12, N14 PB11, N15 PB13, P1 PA6, P2 PB0, P3 PF13, P4 PF14, P5 PE9, P6 PP11, P7 PO1, P8 PP15, P9 PP3, P10 PO5, P11 PP0, P12 PP7, P13 PP8, P14 PD13, P15 PB10, R1 VSS, R2 PB1, R3 PF12, R4 PE8, R5 PE10, R6 VSS, R7 PP13, R8 PP4, R9 VSS, R10 PO4, R11 PP6, R12 VSS, R13 PO0, R14 PP9, R15 VSS

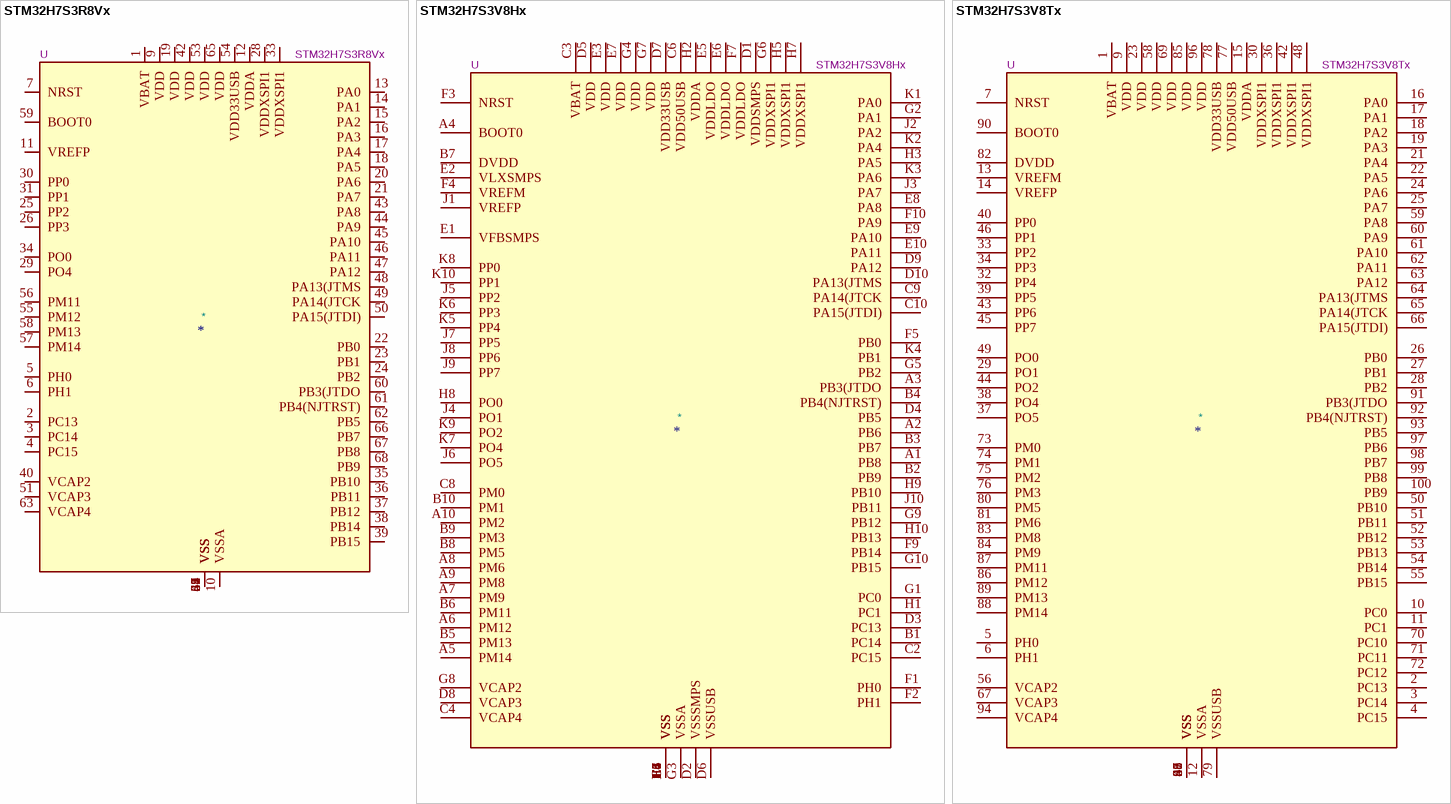
[diagram p33: symbols STM32H7S3R8Vx to STM32H7S3V8Tx]

## STM32H7S3R8Vx
designator *  value STM32H7S3R8Vx  Reference: U
STMicroelectronics Arm Cortex-M7 MCU, 64KB flash, 620KB RAM, 600 MHz, 3.6-3.6V, 45 GPIO, VFQFPN68; ki_keywords: Arm Cortex-M7 STM32H7 STM32H7R3/7S3; ki_fp_filters: QFN*1EP*8x8mm*P0.4mm*; Footprint: Package_DFN_QFN:QFN-68-1EP_8x8mm_P0.4mm_EP6.4x6.4mm; Datasheet: https://www.st.com/resource/en/datasheet/stm32h7s3r8.pdf; Description_: STMicroelectronics Arm Cortex-M7 MCU, 64KB flash, 620KB RAM, 600 MHz, 3.6-3.6V, 45 GPIO, VFQFPN68
pins: 1 VBAT, 2 PC13, 3 PC14, 4 PC15, 5 PH0, 6 PH1, 7 NRST, 8 VSS, 9 VDD, 10 VSSA, 11 VREFP, 12 VDDA, 13 PA0, 14 PA1, 15 PA2, 16 PA3, 17 PA4, 18 PA5, 19 VDD, 20 PA6, 21 PA7, 22 PB0, 23 PB1, 24 PB2, 25 PP2, 26 PP3, 27 VSS, 28 VDDXSPI1, 29 PO4, 30 PP0, 31 PP1, 32 VSS, 33 VDDXSPI1, 34 PO0, 35 PB10, 36 PB11, 37 PB12, 38 PB14, 39 PB15, 40 VCAP2, 41 VSS, 42 VDD, 43 PA8, 44 PA9, 45 PA10, 46 PA11, 47 PA12, 48 PA13(JTMS, 49 PA14(JTCK, 50 PA15(JTDI), 51 VCAP3, 52 VSS, 53 VDD, 54 VDD33USB, 55 PM12, 56 PM11, 57 PM14, 58 PM13, 59 BOOT0, 60 PB3(JTDO, 61 PB4(NJTRST), 62 PB5, 63 VCAP4, 64 VSS, 65 VDD, 66 PB7, 67 PB8, 68 PB9, 69 VSS

## STM32H7S3V8Hx
designator *  value STM32H7S3V8Hx  Reference: U
STMicroelectronics Arm Cortex-M7 MCU, 64KB flash, 620KB RAM, 63 GPIO, TFBGA100; ki_keywords: Arm Cortex-M7 STM32H7 STM32H7R3/7S3; ki_fp_filters: TFBGA*8x8mm*Layout10x10*P0.8mm*; Footprint: Package_BGA:TFBGA-100_8x8mm_Layout10x10_P0.8mm; Datasheet: https://www.st.com/resource/en/datasheet/stm32h7s3v8.pdf; Description_: STMicroelectronics Arm Cortex-M7 MCU, 64KB flash, 620KB RAM, 63 GPIO, TFBGA100
pins: A1 PB8, A2 PB6, A3 PB3(JTDO, A4 BOOT0, A5 PM14, A6 PM12, A7 PM9, A8 PM6, A9 PM8, A10 PM2, B1 PC14, B2 PB9, B3 PB7, B4 PB4(NJTRST), B5 PM13, B6 PM11, B7 DVDD, B8 PM5, B9 PM3, B10 PM1, C1 VSS, C2 PC15, C3 VBAT, C4 VCAP4, C5 VSS, C6 VDD50USB, C7 VSS, C8 PM0, C9 PA14(JTCK, C10 PA15(JTDI), D1 VDDSMPS, D2 VSSSMPS, D3 PC13, D4 PB5, D5 VDD, D6 VSSUSB, D7 VDD33USB, D8 VCAP3, D9 PA12, D10 PA13(JTMS, E1 VFBSMPS, E2 VLXSMPS, E3 VDD, E4 VSS, E5 VDDLDO, E6 VDDLDO, E7 VDD, E8 PA8, E9 PA10, E10 PA11, F1 PH0, F2 PH1, F3 NRST, F4 VREFM, F5 PB0, F6 VSS, F7 VDDLDO, F8 VSS, F9 PB14, F10 PA9, G1 PC0, G2 PA1, G3 VSSA, G4 VDD, G5 PB2, G6 VDDXSPI1, G7 VDD, G8 VCAP2, G9 PB12, G10 PB15, H1 PC1, H2 VDDA, H3 PA5, H4 VSS, H5 VDDXSPI1, H6 VSS, H7 VDDXSPI1, H8 PO0, H9 PB10, H10 PB13, J1 VREFP, J2 PA2, J3 PA7, J4 PO1, J5 PP2, J6 PO5, J7 PP5, J8 PP6, J9 PP7, J10 PB11, K1 PA0, K2 PA4, K3 PA6, K4 PB1, K5 PP4, K6 PP3, K7 PO4, K8 PP0, K9 PO2, K10 PP1

## STM32H7S3V8Tx
designator *  value STM32H7S3V8Tx  Reference: U
STMicroelectronics Arm Cortex-M7 MCU, 64KB flash, 620KB RAM, 600 MHz, 3.6-3.6V, 67 GPIO, LQFP100; ki_keywords: Arm Cortex-M7 STM32H7 STM32H7R3/7S3; ki_fp_filters: LQFP*14x14mm*P0.5mm*; Footprint: Package_QFP:LQFP-100_14x14mm_P0.5mm; Datasheet: https://www.st.com/resource/en/datasheet/stm32h7s3v8.pdf; Description_: STMicroelectronics Arm Cortex-M7 MCU, 64KB flash, 620KB RAM, 600 MHz, 3.6-3.6V, 67 GPIO, LQFP100
pins: 1 VBAT, 2 PC13, 3 PC14, 4 PC15, 5 PH0, 6 PH1, 7 NRST, 8 VSS, 9 VDD, 10 PC0, 11 PC1, 12 VSSA, 13 VREFM, 14 VREFP, 15 VDDA, 16 PA0, 17 PA1, 18 PA2, 19 PA3, 20 VSS, 21 PA4, 22 PA5, 23 VDD, 24 PA6, 25 PA7, 26 PB0, 27 PB1, 28 PB2, 29 PO1, 30 VDDXSPI1, 31 VSS, 32 PP4, 33 PP2, 34 PP3, 35 VSS, 36 VDDXSPI1, 37 PO5, 38 PO4, 39 PP5, 40 PP0, 41 VSS, 42 VDDXSPI1, 43 PP6, 44 PO2, 45 PP7, 46 PP1, 47 VSS, 48 VDDXSPI1, 49 PO0, 50 PB10, 51 PB11, 52 PB12, 53 PB13, 54 PB14, 55 PB15, 56 VCAP2, 57 VSS, 58 VDD, 59 PA8, 60 PA9, 61 PA10, 62 PA11, 63 PA12, 64 PA13(JTMS, 65 PA14(JTCK, 66 PA15(JTDI), 67 VCAP3, 68 VSS, 69 VDD, 70 PC10, 71 PC11, 72 PC12, 73 PM0, 74 PM1, 75 PM2, 76 PM3, 77 VDD50USB, 78 VDD33USB, 79 VSSUSB, 80 PM5, 81 PM6, 82 DVDD, 83 PM8, 84 PM9, 85 VDD, 86 PM12, 87 PM11, 88 PM14, 89 PM13, 90 BOOT0, 91 PB3(JTDO, 92 PB4(NJTRST), 93 PB5, 94 VCAP4, 95 VSS, 96 VDD, 97 PB6, 98 PB7, 99 PB8, 100 PB9

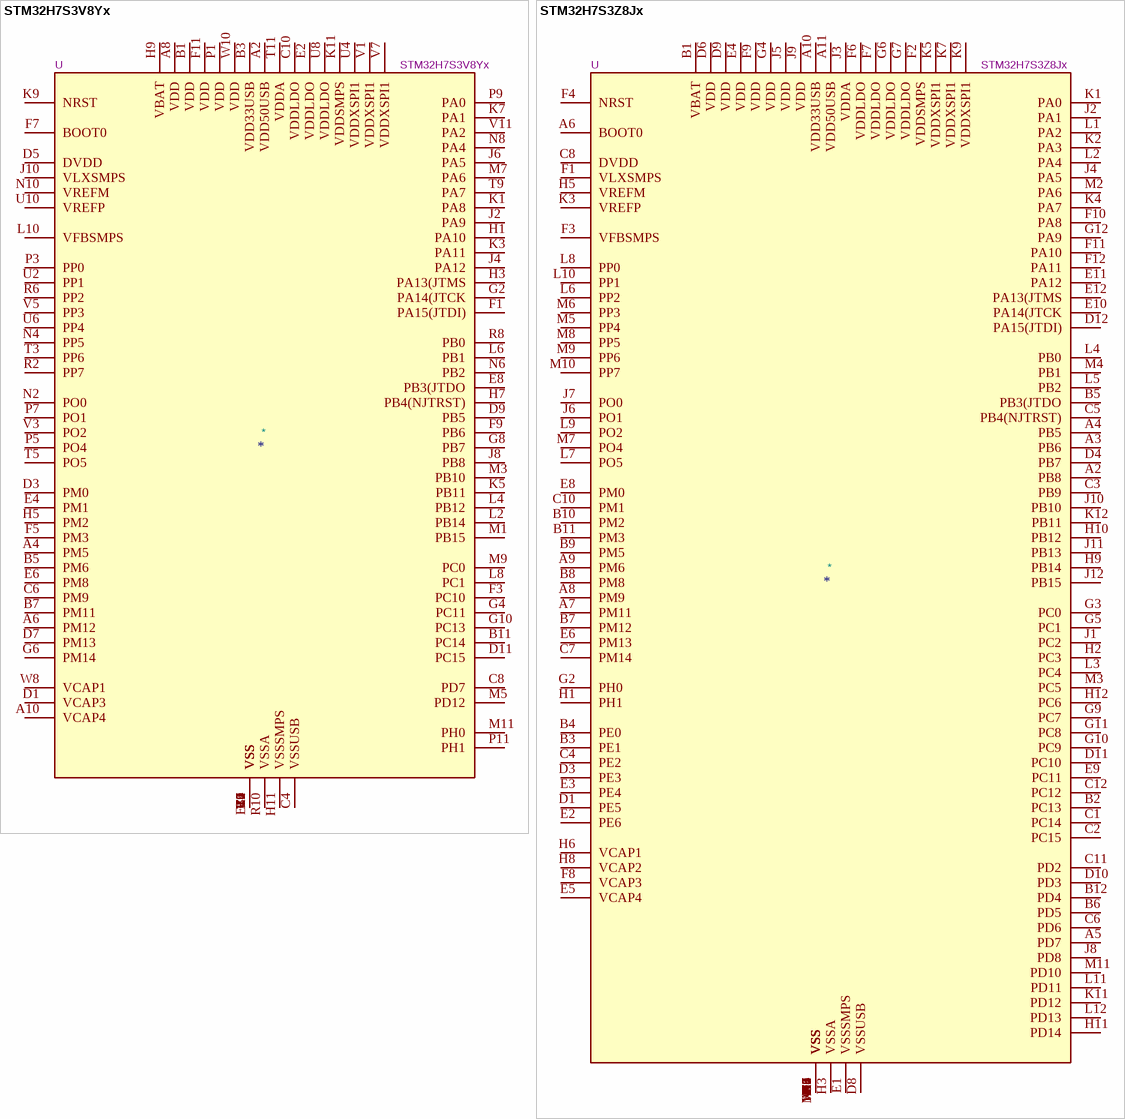
[diagram p34: symbols STM32H7S3V8Yx to STM32H7S3Z8Jx]

## STM32H7S3V8Yx
designator *  value STM32H7S3V8Yx  Reference: U
STMicroelectronics Arm Cortex-M7 MCU, 64KB flash, 620KB RAM, 65 GPIO, WLCSP101; ki_keywords: Arm Cortex-M7 STM32H7 STM32H7R3/7S3; ki_fp_filters: ST*WLCSP*3.86x3.79mm*Layout11x19*P0.35mm*Stagger*; Footprint: Package_CSP:ST_WLCSP-101_3.86x3.79mm_Layout11x19_P0.35mm_Stagger; Datasheet: https://www.st.com/resource/en/datasheet/stm32h7s3v8.pdf; Description_: STMicroelectronics Arm Cortex-M7 MCU, 64KB flash, 620KB RAM, 65 GPIO, WLCSP101
pins: A2 VDD50USB, A4 PM5, A6 PM12, A8 VDD, A10 VCAP4, B1 VDD, B3 VDD33USB, B5 PM6, B7 PM11, B9 VSS, B11 PC14, C2 VSS, C4 VSSUSB, C6 PM9, C8 PD7, C10 VDDLDO, D1 VCAP3, D3 PM0, D5 DVDD, D7 PM13, D9 PB5, D11 PC15, E2 VDDLDO, E4 PM1, E6 PM8, E8 PB3(JTDO, E10 VSS, F1 PA15(JTDI), F3 PC10, F5 PM3, F7 BOOT0, F9 PB6, F11 VDD, G2 PA14(JTCK, G4 PC11, G6 PM14, G8 PB7, G10 PC13, H1 PA10, H3 PA13(JTMS, H5 PM2, H7 PB4(NJTRST), H9 VBAT, H11 VSSSMPS, J2 PA9, J4 PA12, J6 PA5, J8 PB8, J10 VLXSMPS, K1 PA8, K3 PA11, K5 PB11, K7 PA1, K9 NRST, K11 VDDSMPS, L2 PB14, L4 PB12, L6 PB1, L8 PC1, L10 VFBSMPS, M1 PB15, M3 PB10, M5 PD12, M7 PA6, M9 PC0, M11 PH0, N2 PO0, N4 PP5, N6 PB2, N8 PA4, N10 VREFM, P1 VDD, P3 PP0, P5 PO4, P7 PO1, P9 PA0, P11 PH1, R2 PP7, R4 VSS, R6 PP2, R8 PB0, R10 VSSA, T1 VSS, T3 PP6, T5 PO5, T7 VSS, T9 PA7, T11 VDDA, U2 PP1, U4 VDDXSPI1, U6 PP4, U8 VDDLDO, U10 VREFP, V1 VDDXSPI1, V3 PO2, V5 PP3, V7 VDDXSPI1, V9 VSS, V11 PA2, W8 VCAP1, W10 VDD

## STM32H7S3Z8Jx
designator *  value STM32H7S3Z8Jx  Reference: U
STMicroelectronics Arm Cortex-M7 MCU, 64KB flash, 620KB RAM, 94 GPIO, UFBGA144; ki_keywords: Arm Cortex-M7 STM32H7 STM32H7R3/7S3; ki_fp_filters: UFBGA*10x10mm*Layout12x12*P0.8mm*; Footprint: Package_BGA:UFBGA-144_10x10mm_Layout12x12_P0.8mm; Datasheet: https://www.st.com/resource/en/datasheet/stm32h7s3z8.pdf; Description_: STMicroelectronics Arm Cortex-M7 MCU, 64KB flash, 620KB RAM, 94 GPIO, UFBGA144
pins: A1 VSS, A2 PB8, A3 PB6, A4 PB5, A5 PD7, A6 BOOT0, A7 PM11, A8 PM9, A9 PM6, A10 VDD33USB, A11 VDD50USB, A12 VSS, B1 VBAT, B2 PC13, B3 PE1, B4 PE0, B5 PB3(JTDO, B6 PD5, B7 PM12, B8 PM8, B9 PM5, B10 PM2, B11 PM3, B12 PD4, C1 PC14, C2 PC15, C3 PB9, C4 PE2, C5 PB4(NJTRST), C6 PD6, C7 PM14, C8 DVDD, C9 VSS, C10 PM1, C11 PD2, C12 PC12, D1 PE5, D2 VSS, D3 PE3, D4 PB7, D5 VSS, D6 VDD, D7 VSS, D8 VSSUSB, D9 VDD, D10 PD3, D11 PC10, D12 PA15(JTDI), E1 VSSSMPS, E2 PE6, E3 PE4, E4 VDD, E5 VCAP4, E6 PM13, E7 VSS, E8 PM0, E9 PC11, E10 PA14(JTCK, E11 PA12, E12 PA13(JTMS, F1 VLXSMPS, F2 VDDSMPS, F3 VFBSMPS, F4 NRST, F5 VSS, F6 VDDLDO, F7 VDDLDO, F8 VCAP3, F9 VDD, F10 PA8, F11 PA10, F12 PA11, G1 VSS, G2 PH0, G3 PC0, G4 VDD, G5 PC1, G6 VDDLDO, G7 VDDLDO, G8 VSS, G9 PC7, G10 PC9, G11 PC8, G12 PA9, H1 PH1, H2 PC3, H3 VSSA, H4 VSS, H5 VREFM, H6 VCAP1, H7 VSS, H8 VCAP2, H9 PB14, H10 PB12, H11 PD14, H12 PC6, J1 PC2, J2 PA1, J3 VDDA, J4 PA5, J5 VDD, J6 PO1, J7 PO0, J8 PD8, J9 VDD, J10 PB10, J11 PB13, J12 PB15, K1 PA0, K2 PA3, K3 VREFP, K4 PA7, K5 VDDXSPI1, K6 VSS, K7 VDDXSPI1, K8 VSS, K9 VDDXSPI1, K10 VSS, K11 PD12, K12 PB11, L1 PA2, L2 PA4, L3 PC4, L4 PB0, L5 PB2, L6 PP2, L7 PO5, L8 PP0, L9 PO2, L10 PP1, L11 PD11, L12 PD13, M1 VSS, M2 PA6, M3 PC5, M4 PB1, M5 PP4, M6 PP3, M7 PO4, M8 PP5, M9 PP6, M10 PP7, M11 PD10, M12 VSS

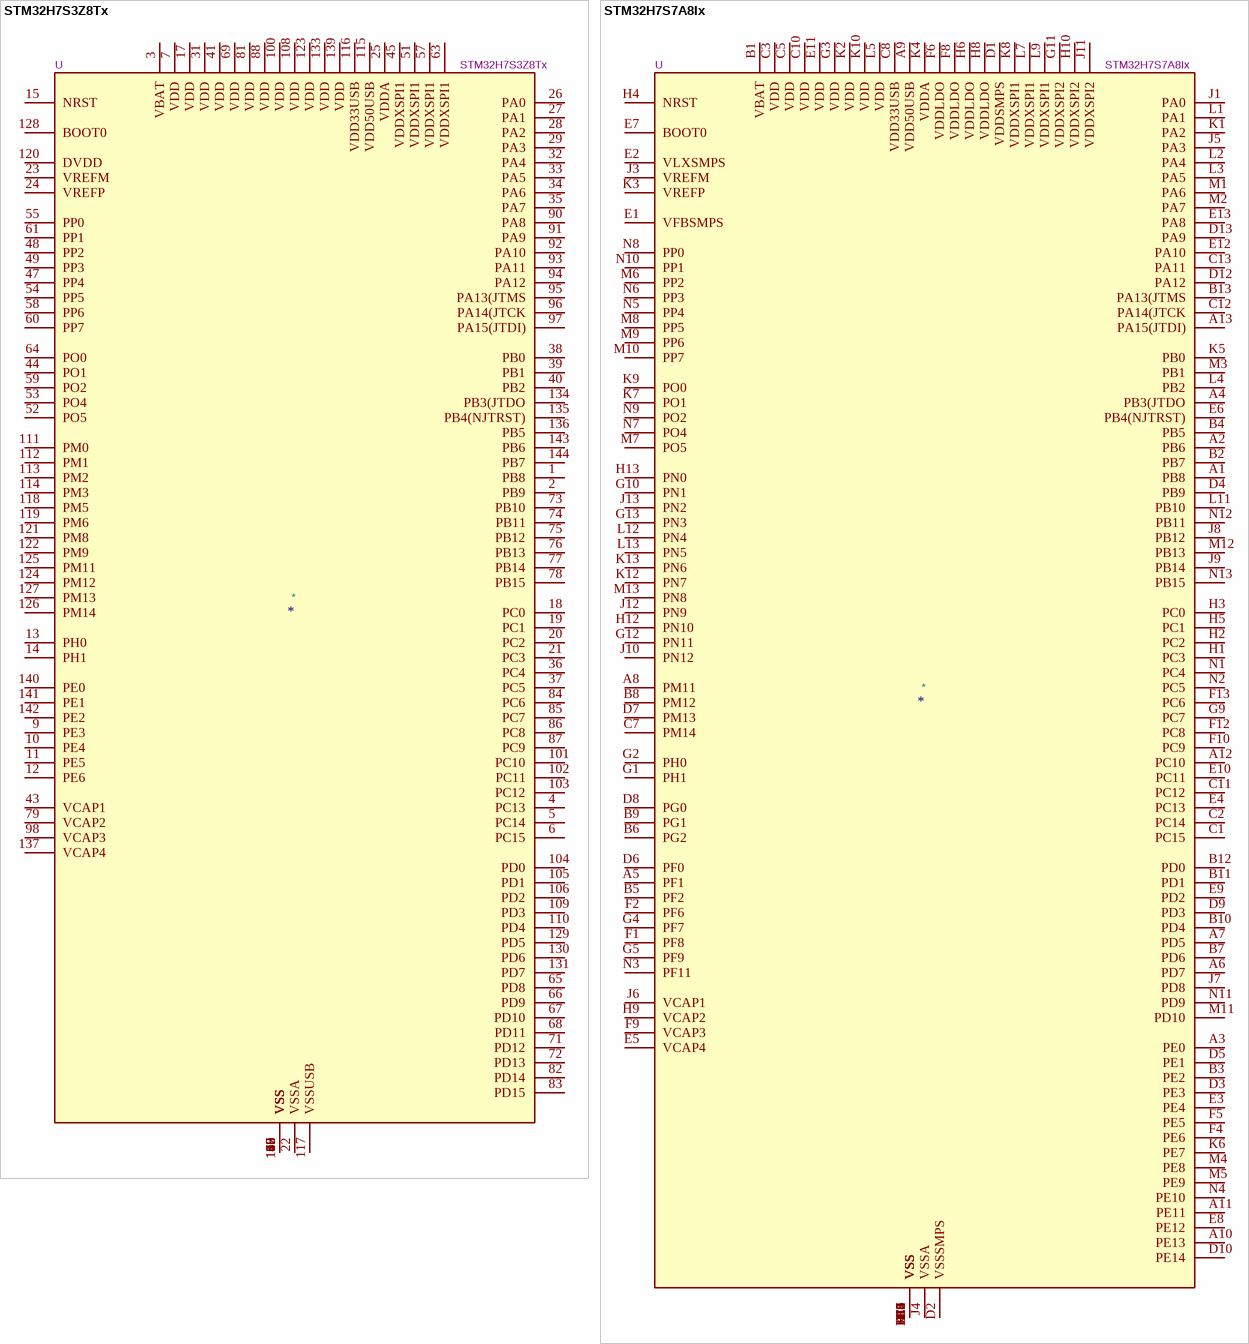
[diagram p35: symbols STM32H7S3Z8Tx to STM32H7S7A8Ix]

## STM32H7S3Z8Tx
designator *  value STM32H7S3Z8Tx  Reference: U
STMicroelectronics Arm Cortex-M7 MCU, 64KB flash, 620KB RAM, 600 MHz, 3.6-3.6V, 98 GPIO, LQFP144; ki_keywords: Arm Cortex-M7 STM32H7 STM32H7R3/7S3; ki_fp_filters: LQFP*20x20mm*P0.5mm*; Footprint: Package_QFP:LQFP-144_20x20mm_P0.5mm; Datasheet: https://www.st.com/resource/en/datasheet/stm32h7s3z8.pdf; Description_: STMicroelectronics Arm Cortex-M7 MCU, 64KB flash, 620KB RAM, 600 MHz, 3.6-3.6V, 98 GPIO, LQFP144
pins: 1 PB8, 2 PB9, 3 VBAT, 4 PC13, 5 PC14, 6 PC15, 7 VDD, 8 VSS, 9 PE3, 10 PE4, 11 PE5, 12 PE6, 13 PH0, 14 PH1, 15 NRST, 16 VSS, 17 VDD, 18 PC0, 19 PC1, 20 PC2, 21 PC3, 22 VSSA, 23 VREFM, 24 VREFP, 25 VDDA, 26 PA0, 27 PA1, 28 PA2, 29 PA3, 30 VSS, 31 VDD, 32 PA4, 33 PA5, 34 PA6, 35 PA7, 36 PC4, 37 PC5, 38 PB0, 39 PB1, 40 PB2, 41 VDD, 42 VSS, 43 VCAP1, 44 PO1, 45 VDDXSPI1, 46 VSS, 47 PP4, 48 PP2, 49 PP3, 50 VSS, 51 VDDXSPI1, 52 PO5, 53 PO4, 54 PP5, 55 PP0, 56 VSS, 57 VDDXSPI1, 58 PP6, 59 PO2, 60 PP7, 61 PP1, 62 VSS, 63 VDDXSPI1, 64 PO0, 65 PD8, 66 PD9, 67 PD10, 68 PD11, 69 VDD, 70 VSS, 71 PD12, 72 PD13, 73 PB10, 74 PB11, 75 PB12, 76 PB13, 77 PB14, 78 PB15, 79 VCAP2, 80 VSS, 81 VDD, 82 PD14, 83 PD15, 84 PC6, 85 PC7, 86 PC8, 87 PC9, 88 VDD, 89 VSS, 90 PA8, 91 PA9, 92 PA10, 93 PA11, 94 PA12, 95 PA13(JTMS, 96 PA14(JTCK, 97 PA15(JTDI), 98 VCAP3, 99 VSS, 100 VDD, 101 PC10, 102 PC11, 103 PC12, 104 PD0, 105 PD1, 106 PD2, 107 VSS, 108 VDD, 109 PD3, 110 PD4, 111 PM0, 112 PM1, 113 PM2, 114 PM3, 115 VDD50USB, 116 VDD33USB, 117 VSSUSB, 118 PM5, 119 PM6, 120 DVDD, 121 PM8, 122 PM9, 123 VDD, 124 PM12, 125 PM11, 126 PM14, 127 PM13, 128 BOOT0, 129 PD5, 130 PD6, 131 PD7, 132 VSS, 133 VDD, 134 PB3(JTDO, 135 PB4(NJTRST), 136 PB5, 137 VCAP4, 138 VSS, 139 VDD, 140 PE0, 141 PE1, 142 PE2, 143 PB6, 144 PB7

## STM32H7S7A8Ix
designator *  value STM32H7S7A8Ix  Reference: U
STMicroelectronics Arm Cortex-M7 MCU, 64KB flash, 620KB RAM, 600 MHz, 3.6-3.6V, 117 GPIO, UFBGA169; ki_keywords: Arm Cortex-M7 STM32H7 STM32H7R7/7S7; ki_fp_filters: UFBGA*7x7mm*Layout13x13*P0.5mm*; Footprint: Package_BGA:UFBGA-169_7x7mm_Layout13x13_P0.5mm; Datasheet: https://www.st.com/resource/en/datasheet/stm32h7s7a8.pdf; Description_: STMicroelectronics Arm Cortex-M7 MCU, 64KB flash, 620KB RAM, 600 MHz, 3.6-3.6V, 117 GPIO, UFBGA169
pins: A1 PB8, A2 PB6, A3 PE0, A4 PB3(JTDO, A5 PF1, A6 PD7, A7 PD5, A8 PM11, A9 VDD50USB, A10 PE13, A11 PE11, A12 PC10, A13 PA15(JTDI), B1 VBAT, B2 PB7, B3 PE2, B4 PB5, B5 PF2, B6 PG2, B7 PD6, B8 PM12, B9 PG1, B10 PD4, B11 PD1, B12 PD0, B13 PA13(JTMS, C1 PC15, C2 PC14, C3 VDD, C4 VSS, C5 VDD, C6 VSS, C7 PM14, C8 VDD33USB, C9 VSS, C10 VDD, C11 PC12, C12 PA14(JTCK, C13 PA11, D1 VDDSMPS, D2 VSSSMPS, D3 PE3, D4 PB9, D5 PE1, D6 PF0, D7 PM13, D8 PG0, D9 PD3, D10 PE14, D11 VSS, D12 PA12, D13 PA9, E1 VFBSMPS, E2 VLXSMPS, E3 PE4, E4 PC13, E5 VCAP4, E6 PB4(NJTRST), E7 BOOT0, E8 PE12, E9 PD2, E10 PC11, E11 VDD, E12 PA10, E13 PA8, F1 PF8, F2 PF6, F3 VSS, F4 PE6, F5 PE5, F6 VDDLDO, F7 VSS, F8 VDDLDO, F9 VCAP3, F10 PC9, F11 VSS, F12 PC8, F13 PC6, G1 PH1, G2 PH0, G3 VDD, G4 PF7, G5 PF9, G6 VSS, G7 VSS, G8 VSS, G9 PC7, G10 PN1, G11 VDDXSPI2, G12 PN11, G13 PN3, H1 PC3, H2 PC2, H3 PC0, H4 NRST, H5 PC1, H6 VDDLDO, H7 VSS, H8 VDDLDO, H9 VCAP2, H10 VDDXSPI2, H11 VSS, H12 PN10, H13 PN0, J1 PA0, J2 VSS, J3 VREFM, J4 VSSA, J5 PA3, J6 VCAP1, J7 PD8, J8 PB12, J9 PB14, J10 PN12, J11 VDDXSPI2, J12 PN9, J13 PN2, K1 PA2, K2 VDD, K3 VREFP, K4 VDDA, K5 PB0, K6 PE7, K7 PO1, K8 VDDXSPI1, K9 PO0, K10 VDD, K11 VSS, K12 PN7, K13 PN6, L1 PA1, L2 PA4, L3 PA5, L4 PB2, L5 VDD, L6 VSS, L7 VDDXSPI1, L8 VSS, L9 VDDXSPI1, L10 VSS, L11 PB10, L12 PN4, L13 PN5, M1 PA6, M2 PA7, M3 PB1, M4 PE8, M5 PE9, M6 PP2, M7 PO5, M8 PP5, M9 PP6, M10 PP7, M11 PD10, M12 PB13, M13 PN8, N1 PC4, N2 PC5, N3 PF11, N4 PE10, N5 PP4, N6 PP3, N7 PO4, N8 PP0, N9 PO2, N10 PP1, N11 PD9, N12 PB11, N13 PB15

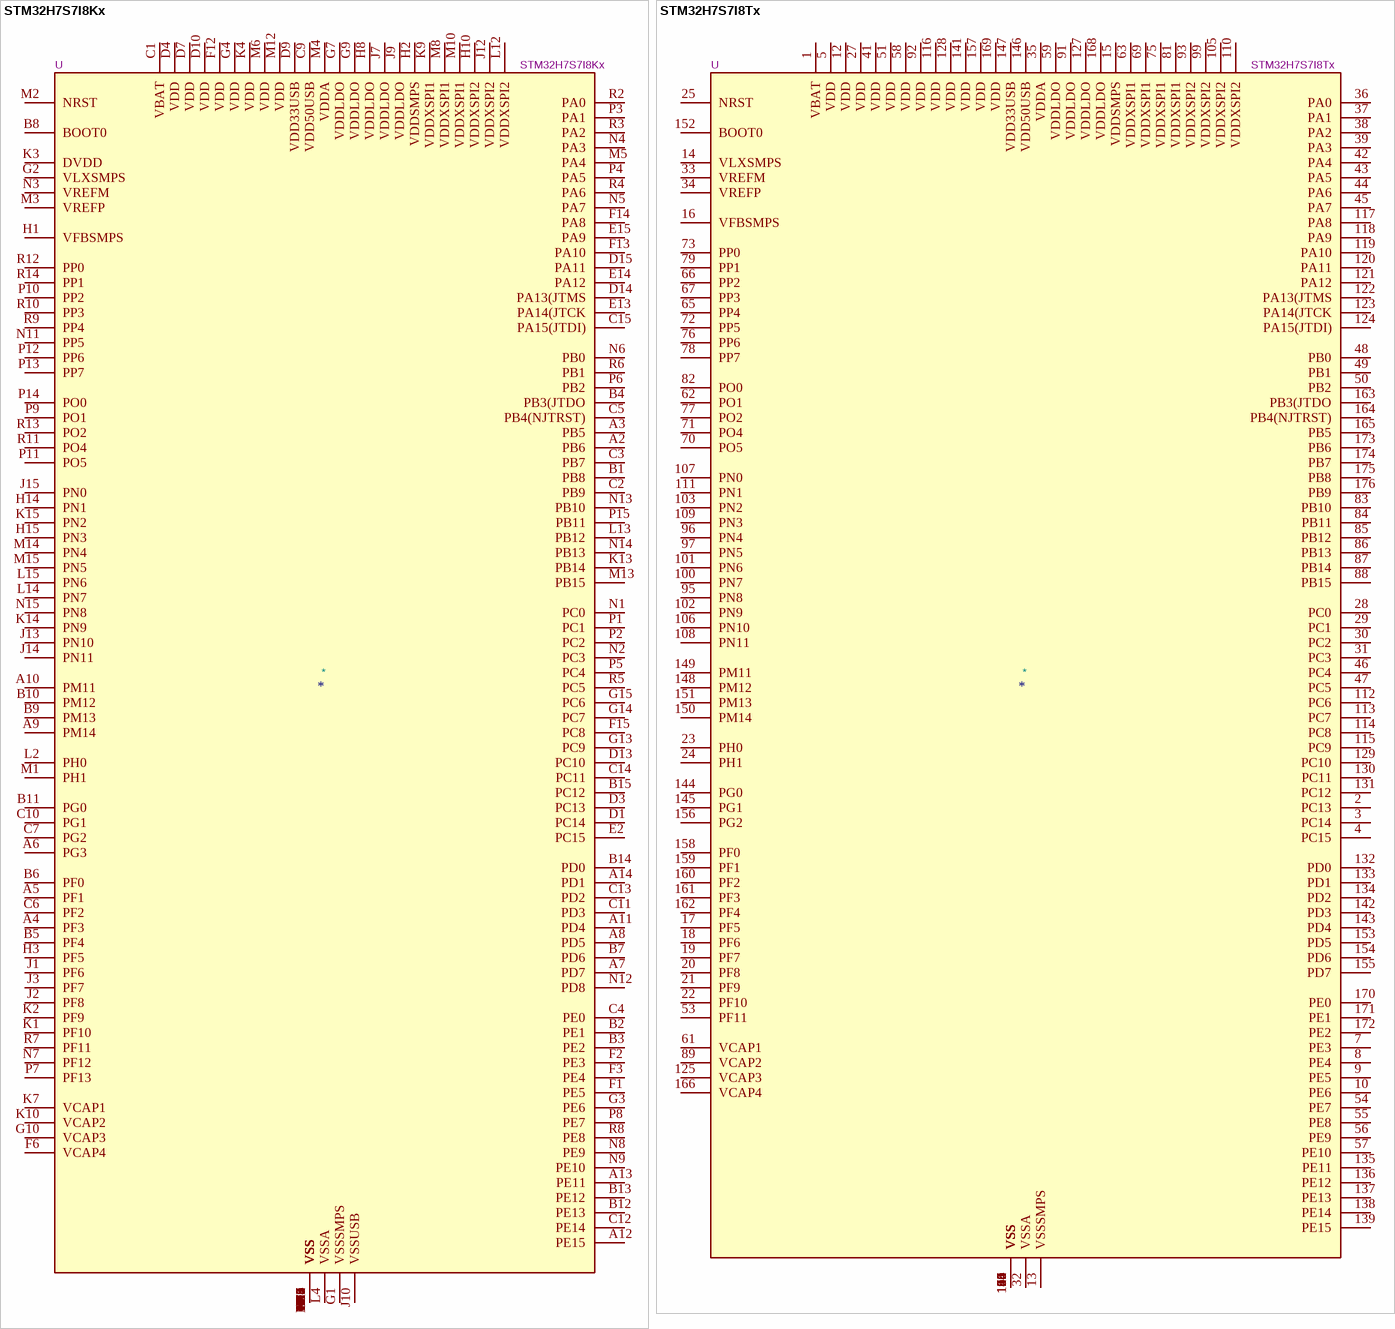
[diagram p36: symbols STM32H7S7I8Kx to STM32H7S7I8Tx]

## STM32H7S7I8Kx
designator *  value STM32H7S7I8Kx  Reference: U
STMicroelectronics Arm Cortex-M7 MCU, 64KB flash, 620KB RAM, 600 MHz, 3.6-3.6V, 122 GPIO, UFBGA176; ki_keywords: Arm Cortex-M7 STM32H7 STM32H7R7/7S7; ki_fp_filters: UFBGA*10x10mm*Layout15x15*P0.65mm*; Footprint: Package_BGA:UFBGA-201_10x10mm_Layout15x15_P0.65mm; Datasheet: https://www.st.com/resource/en/datasheet/stm32h7s7i8.pdf; Description_: STMicroelectronics Arm Cortex-M7 MCU, 64KB flash, 620KB RAM, 600 MHz, 3.6-3.6V, 122 GPIO, UFBGA176
pins: A1 VSS, A2 PB6, A3 PB5, A4 PF3, A5 PF1, A6 PG3, A7 PD7, A8 PD5, A9 PM14, A10 PM11, A11 PD4, A12 PE15, A13 PE11, A14 PD1, A15 VSS, B1 PB8, B2 PE1, B3 PE2, B4 PB3(JTDO, B5 PF4, B6 PF0, B7 PD6, B8 BOOT0, B9 PM13, B10 PM12, B11 PG0, B12 PE13, B13 PE12, B14 PD0, B15 PC12, C1 VBAT, C2 PB9, C3 PB7, C4 PE0, C5 PB4(NJTRST), C6 PF2, C7 PG2, C8 VSS, C9 VDD50USB, C10 PG1, C11 PD3, C12 PE14, C13 PD2, C14 PC11, C15 PA15(JTDI), D1 PC14, D2 VSS, D3 PC13, D4 VDD, D5 VSS, D6 VSS, D7 VDD, D8 VSS, D9 VDD33USB, D10 VDD, D11 VSS, D12 VSS, D13 PC10, D14 PA13(JTMS, D15 PA11, E1 VSS, E2 PC15, E3 VSS, E4 VSS, E12 VSS, E13 PA14(JTCK, E14 PA12, E15 PA9, F1 PE5, F2 PE3, F3 PE4, F4 VSS, F6 VCAP4, F7 VSS, F8 VSS, F9 VSS, F10 VSS, F12 VDD, F13 PA10, F14 PA8, F15 PC8, G1 VSSSMPS, G2 VLXSMPS, G3 PE6, G4 VDD, G6 VSS, G7 VDDLDO, G8 VSS, G9 VDDLDO, G10 VCAP3, G12 VSS, G13 PC9, G14 PC7, G15 PC6, H1 VFBSMPS, H2 VDDSMPS, H3 PF5, H4 VSS, H6 VSS, H7 VSS, H8 VDDLDO, H9 VSS, H10 VDDXSPI2, H12 VSS, H13 VSS, H14 PN1, H15 PN3, J1 PF6, J2 PF8, J3 PF7, J4 VSS, J6 VSS, J7 VDDLDO, J8 VSS, J9 VDDLDO, J10 VSSUSB, J12 VDDXSPI2, J13 PN10, J14 PN11, J15 PN0, K1 PF10, K2 PF9, K3 DVDD, K4 VDD, K6 VSS, K7 VCAP1, K8 VSS, K9 VDDXSPI1, K10 VCAP2, K12 VSS, K13 PB14, K14 PN9, K15 PN2, L1 VSS, L2 PH0, L3 VSS, L4 VSSA, L12 VDDXSPI2, L13 PB12, L14 PN7, L15 PN6, M1 PH1, M2 NRST, M3 VREFP, M4 VDDA, M5 PA4, M6 VDD, M7 VSS, M8 VDDXSPI1, M9 VSS, M10 VDDXSPI1, M11 VSS, M12 VDD, M13 PB15, M14 PN4, M15 PN5, N1 PC0, N2 PC3, N3 VREFM, N4 PA3, N5 PA7, N6 PB0, N7 PF12, N8 PE9, N9 PE10, N10 VSS, N11 PP5, N12 PD8, N13 PB10, N14 PB13, N15 PN8, P1 PC1, P2 PC2, P3 PA1, P4 PA5, P5 PC4, P6 PB2, P7 PF13, P8 PE7, P9 PO1, P10 PP2, P11 PO5, P12 PP6, P13 PP7, P14 PO0, P15 PB11, R1 VSS, R2 PA0, R3 PA2, R4 PA6, R5 PC5, R6 PB1, R7 PF11, R8 PE8, R9 PP4, R10 PP3, R11 PO4, R12 PP0, R13 PO2, R14 PP1, R15 VSS

## STM32H7S7I8Tx
designator *  value STM32H7S7I8Tx  Reference: U
STMicroelectronics Arm Cortex-M7 MCU, 64KB flash, 620KB RAM, 600 MHz, 3.6-3.6V, 118 GPIO, LQFP176; ki_keywords: Arm Cortex-M7 STM32H7 STM32H7R7/7S7; ki_fp_filters: LQFP*24x24mm*P0.5mm*; Footprint: Package_QFP:LQFP-176_24x24mm_P0.5mm; Datasheet: https://www.st.com/resource/en/datasheet/stm32h7s7i8.pdf; Description_: STMicroelectronics Arm Cortex-M7 MCU, 64KB flash, 620KB RAM, 600 MHz, 3.6-3.6V, 118 GPIO, LQFP176
pins: 1 VBAT, 2 PC13, 3 PC14, 4 PC15, 5 VDD, 6 VSS, 7 PE3, 8 PE4, 9 PE5, 10 PE6, 11 VSS, 12 VDD, 13 VSSSMPS, 14 VLXSMPS, 15 VDDSMPS, 16 VFBSMPS, 17 PF5, 18 PF6, 19 PF7, 20 PF8, 21 PF9, 22 PF10, 23 PH0, 24 PH1, 25 NRST, 26 VSS, 27 VDD, 28 PC0, 29 PC1, 30 PC2, 31 PC3, 32 VSSA, 33 VREFM, 34 VREFP, 35 VDDA, 36 PA0, 37 PA1, 38 PA2, 39 PA3, 40 VSS, 41 VDD, 42 PA4, 43 PA5, 44 PA6, 45 PA7, 46 PC4, 47 PC5, 48 PB0, 49 PB1, 50 PB2, 51 VDD, 52 VSS, 53 PF11, 54 PE7, 55 PE8, 56 PE9, 57 PE10, 58 VDD, 59 VDDLDO, 60 VSS, 61 VCAP1, 62 PO1, 63 VDDXSPI1, 64 VSS, 65 PP4, 66 PP2, 67 PP3, 68 VSS, 69 VDDXSPI1, 70 PO5, 71 PO4, 72 PP5, 73 PP0, 74 VSS, 75 VDDXSPI1, 76 PP6, 77 PO2, 78 PP7, 79 PP1, 80 VSS, 81 VDDXSPI1, 82 PO0, 83 PB10, 84 PB11, 85 PB12, 86 PB13, 87 PB14, 88 PB15, 89 VCAP2, 90 VSS, 91 VDDLDO, 92 VDD, 93 VDDXSPI2, 94 VSS, 95 PN8, 96 PN4, 97 PN5, 98 VSS, 99 VDDXSPI2, 100 PN7, 101 PN6, 102 PN9, 103 PN2, 104 VSS, 105 VDDXSPI2, 106 PN10, 107 PN0, 108 PN11, 109 PN3, 110 VDDXSPI2, 111 PN1, 112 PC6, 113 PC7, 114 PC8, 115 PC9, 116 VDD, 117 PA8, 118 PA9, 119 PA10, 120 PA11, 121 PA12, 122 PA13(JTMS, 123 PA14(JTCK, 124 PA15(JTDI), 125 VCAP3, 126 VSS, 127 VDDLDO, 128 VDD, 129 PC10, 130 PC11, 131 PC12, 132 PD0, 133 PD1, 134 PD2, 135 PE11, 136 PE12, 137 PE13, 138 PE14, 139 PE15, 140 VSS, 141 VDD, 142 PD3, 143 PD4, 144 PG0, 145 PG1, 146 VDD50USB, 147 VDD33USB, 148 PM12, 149 PM11, 150 PM14, 151 PM13, 152 BOOT0, 153 PD5, 154 PD6, 155 PD7, 156 PG2, 157 VDD, 158 PF0, 159 PF1, 160 PF2, 161 PF3, 162 PF4, 163 PB3(JTDO, 164 PB4(NJTRST), 165 PB5, 166 VCAP4, 167 VSS, 168 VDDLDO, 169 VDD, 170 PE0, 171 PE1, 172 PE2, 173 PB6, 174 PB7, 175 PB8, 176 PB9

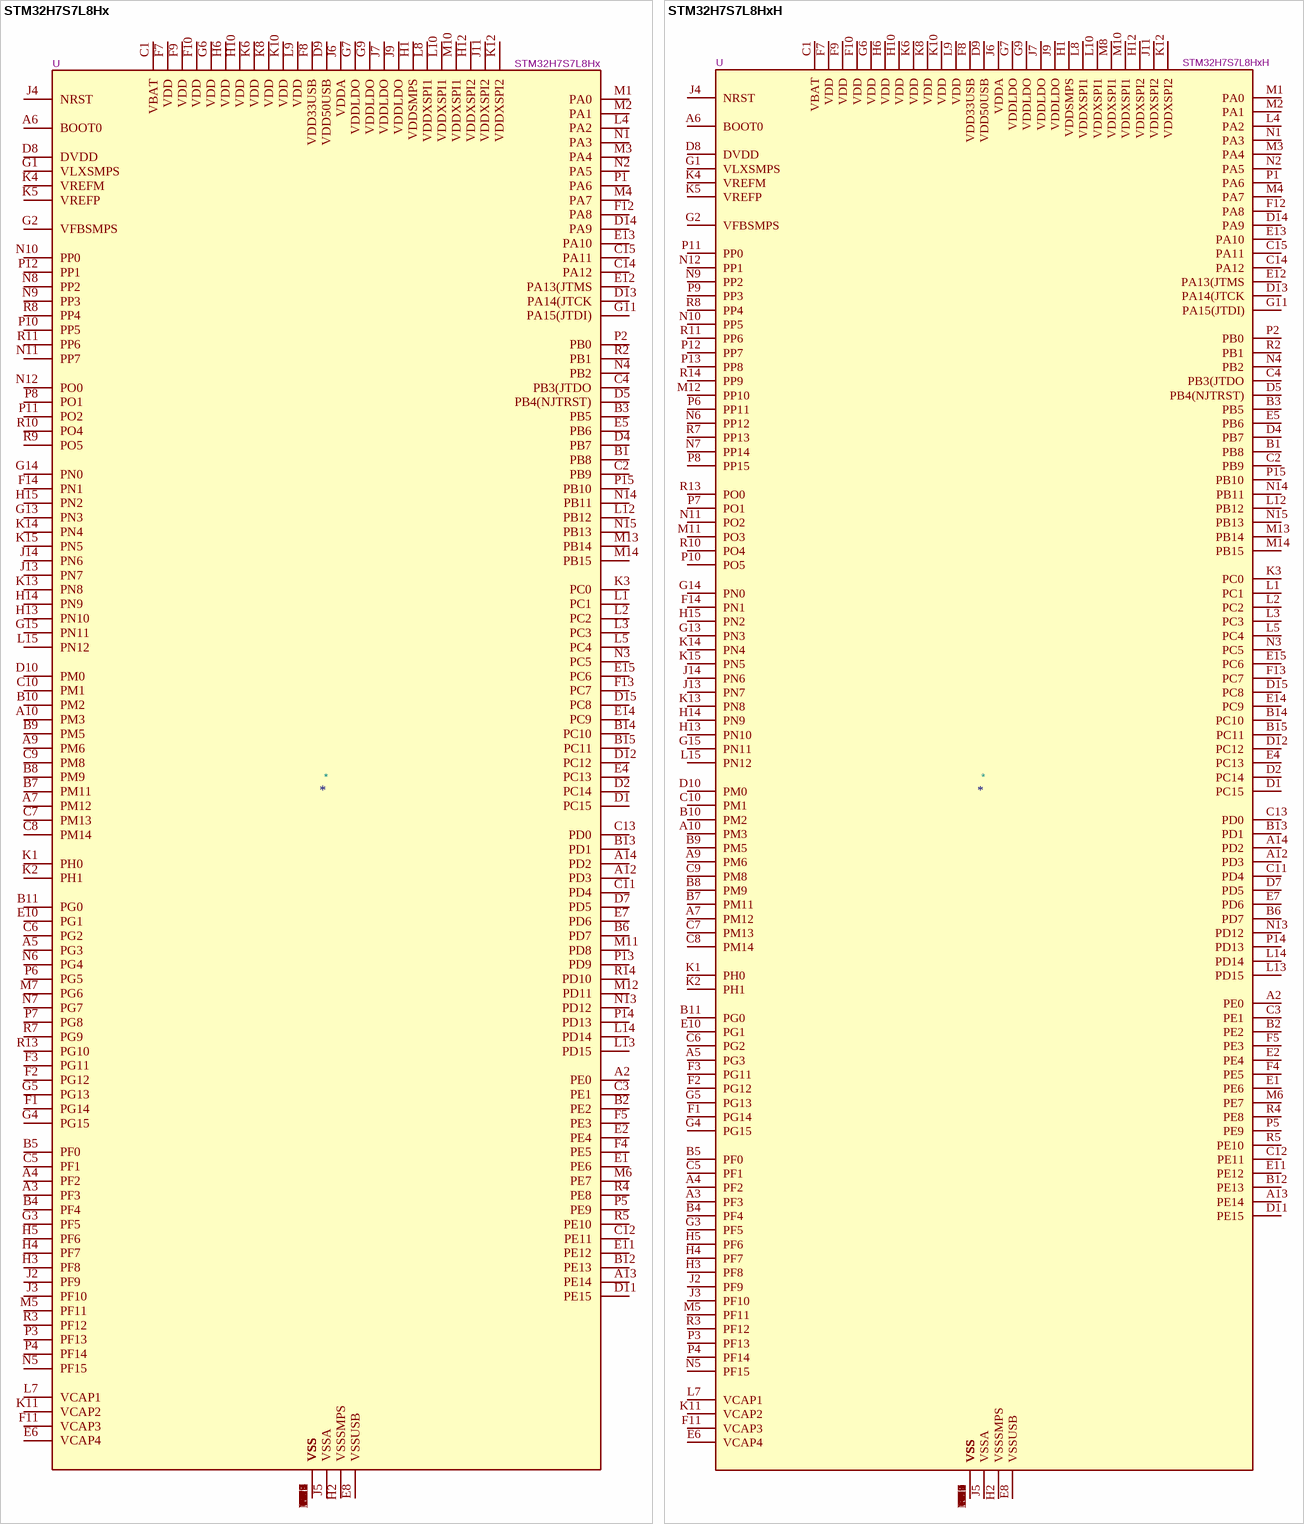
[diagram p37: symbols STM32H7S7L8Hx to STM32H7S7L8HxH]

## STM32H7S7L8Hx
designator *  value STM32H7S7L8Hx  Reference: U
STMicroelectronics Arm Cortex-M7 MCU, 64KB flash, 620KB RAM, 152 GPIO, TFBGA225 OCTO SMPS; ki_keywords: Arm Cortex-M7 STM32H7 STM32H7R7/7S7; ki_fp_filters: ST*TFBGA*13x13mm*Layout15x15*P0.8mm*; Footprint: Package_BGA:ST_TFBGA-225_13x13mm_Layout15x15_P0.8mm; Datasheet: https://www.st.com/resource/en/datasheet/stm32h7s7l8.pdf; Description_: STMicroelectronics Arm Cortex-M7 MCU, 64KB flash, 620KB RAM, 152 GPIO, TFBGA225 OCTO SMPS
pins: A1 VSS, A2 PE0, A3 PF3, A4 PF2, A5 PG3, A6 BOOT0, A7 PM12, A8 VSS, A9 PM6, A10 PM3, A11 VSS, A12 PD3, A13 PE14, A14 PD2, A15 VSS, B1 PB8, B2 PE2, B3 PB5, B4 PF4, B5 PF0, B6 PD7, B7 PM11, B8 PM9, B9 PM5, B10 PM2, B11 PG0, B12 PE13, B13 PD1, B14 PC10, B15 PC11, C1 VBAT, C2 PB9, C3 PE1, C4 PB3(JTDO, C5 PF1, C6 PG2, C7 PM13, C8 PM14, C9 PM8, C10 PM1, C11 PD4, C12 PE11, C13 PD0, C14 PA12, C15 PA11, D1 PC15, D2 PC14, D3 VSS, D4 PB7, D5 PB4(NJTRST), D6 VSS, D7 PD5, D8 DVDD, D9 VDD50USB, D10 PM0, D11 PE15, D12 PC12, D13 PA14(JTCK, D14 PA9, D15 PC8, E1 PE6, E2 PE4, E3 VSS, E4 PC13, E5 PB6, E6 VCAP4, E7 PD6, E8 VSSUSB, E9 VSS, E10 PG1, E11 PE12, E12 PA13(JTMS, E13 PA10, E14 PC9, E15 PC6, F1 PG14, F2 PG12, F3 PG11, F4 PE5, F5 PE3, F6 VSS, F7 VDD, F8 VDD33USB, F9 VDD, F10 VDD, F11 VCAP3, F12 PA8, F13 PC7, F14 PN1, F15 VSS, G1 VLXSMPS, G2 VFBSMPS, G3 PF5, G4 PG15, G5 PG13, G6 VDD, G7 VDDLDO, G8 VSS, G9 VDDLDO, G10 VSS, G11 PA15(JTDI), G12 VSS, G13 PN3, G14 PN0, G15 PN11, H1 VDDSMPS, H2 VSSSMPS, H3 PF8, H4 PF7, H5 PF6, H6 VDD, H7 VSS, H8 VSS, H9 VSS, H10 VDD, H11 VSS, H12 VDDXSPI2, H13 PN10, H14 PN9, H15 PN2, J1 VSS, J2 PF9, J3 PF10, J4 NRST, J5 VSSA, J6 VDDA, J7 VDDLDO, J8 VSS, J9 VDDLDO, J10 VSS, J11 VDDXSPI2, J12 VSS, J13 PN7, J14 PN6, J15 VSS, K1 PH0, K2 PH1, K3 PC0, K4 VREFM, K5 VREFP, K6 VDD, K7 VSS, K8 VDD, K9 VSS, K10 VDD, K11 VCAP2, K12 VDDXSPI2, K13 PN8, K14 PN4, K15 PN5, L1 PC1, L2 PC2, L3 PC3, L4 PA2, L5 PC4, L6 VSS, L7 VCAP1, L8 VDDXSPI1, L9 VDD, L10 VDDXSPI1, L11 VSS, L12 PB12, L13 PD15, L14 PD14, L15 PN12, M1 PA0, M2 PA1, M3 PA4, M4 PA7, M5 PF11, M6 PE7, M7 PG6, M8 VSS, M9 VSS, M10 VDDXSPI1, M11 PD8, M12 PD11, M13 PB14, M14 PB15, M15 VSS, N1 PA3, N2 PA5, N3 PC5, N4 PB2, N5 PF15, N6 PG4, N7 PG7, N8 PP2, N9 PP3, N10 PP0, N11 PP7, N12 PO0, N13 PD12, N14 PB11, N15 PB13, P1 PA6, P2 PB0, P3 PF13, P4 PF14, P5 PE9, P6 PG5, P7 PG8, P8 PO1, P9 VSS, P10 PP5, P11 PO2, P12 PP1, P13 PD9, P14 PD13, P15 PB10, R1 VSS, R2 PB1, R3 PF12, R4 PE8, R5 PE10, R6 VSS, R7 PG9, R8 PP4, R9 PO5, R10 PO4, R11 PP6, R12 VSS, R13 PG10, R14 PD10, R15 VSS

## STM32H7S7L8HxH
designator *  value STM32H7S7L8HxH  Reference: U
STMicroelectronics Arm Cortex-M7 MCU, 64KB flash, 620KB RAM, 150 GPIO, TFBGA225 HEXA SMPS; ki_keywords: Arm Cortex-M7 STM32H7 STM32H7R7/7S7; ki_fp_filters: ST*TFBGA*13x13mm*Layout15x15*P0.8mm*; Footprint: Package_BGA:ST_TFBGA-225_13x13mm_Layout15x15_P0.8mm; Datasheet: https://www.st.com/resource/en/datasheet/stm32h7s7l8.pdf; Description_: STMicroelectronics Arm Cortex-M7 MCU, 64KB flash, 620KB RAM, 150 GPIO, TFBGA225 HEXA SMPS
pins: A1 VSS, A2 PE0, A3 PF3, A4 PF2, A5 PG3, A6 BOOT0, A7 PM12, A8 VSS, A9 PM6, A10 PM3, A11 VSS, A12 PD3, A13 PE14, A14 PD2, A15 VSS, B1 PB8, B2 PE2, B3 PB5, B4 PF4, B5 PF0, B6 PD7, B7 PM11, B8 PM9, B9 PM5, B10 PM2, B11 PG0, B12 PE13, B13 PD1, B14 PC10, B15 PC11, C1 VBAT, C2 PB9, C3 PE1, C4 PB3(JTDO, C5 PF1, C6 PG2, C7 PM13, C8 PM14, C9 PM8, C10 PM1, C11 PD4, C12 PE11, C13 PD0, C14 PA12, C15 PA11, D1 PC15, D2 PC14, D3 VSS, D4 PB7, D5 PB4(NJTRST), D6 VSS, D7 PD5, D8 DVDD, D9 VDD50USB, D10 PM0, D11 PE15, D12 PC12, D13 PA14(JTCK, D14 PA9, D15 PC8, E1 PE6, E2 PE4, E3 VSS, E4 PC13, E5 PB6, E6 VCAP4, E7 PD6, E8 VSSUSB, E9 VSS, E10 PG1, E11 PE12, E12 PA13(JTMS, E13 PA10, E14 PC9, E15 PC6, F1 PG14, F2 PG12, F3 PG11, F4 PE5, F5 PE3, F6 VSS, F7 VDD, F8 VDD33USB, F9 VDD, F10 VDD, F11 VCAP3, F12 PA8, F13 PC7, F14 PN1, F15 VSS, G1 VLXSMPS, G2 VFBSMPS, G3 PF5, G4 PG15, G5 PG13, G6 VDD, G7 VDDLDO, G8 VSS, G9 VDDLDO, G10 VSS, G11 PA15(JTDI), G12 VSS, G13 PN3, G14 PN0, G15 PN11, H1 VDDSMPS, H2 VSSSMPS, H3 PF8, H4 PF7, H5 PF6, H6 VDD, H7 VSS, H8 VSS, H9 VSS, H10 VDD, H11 VSS, H12 VDDXSPI2, H13 PN10, H14 PN9, H15 PN2, J1 VSS, J2 PF9, J3 PF10, J4 NRST, J5 VSSA, J6 VDDA, J7 VDDLDO, J8 VSS, J9 VDDLDO, J10 VSS, J11 VDDXSPI2, J12 VSS, J13 PN7, J14 PN6, J15 VSS, K1 PH0, K2 PH1, K3 PC0, K4 VREFM, K5 VREFP, K6 VDD, K7 VSS, K8 VDD, K9 VSS, K10 VDD, K11 VCAP2, K12 VDDXSPI2, K13 PN8, K14 PN4, K15 PN5, L1 PC1, L2 PC2, L3 PC3, L4 PA2, L5 PC4, L6 VSS, L7 VCAP1, L8 VDDXSPI1, L9 VDD, L10 VDDXSPI1, L11 VSS, L12 PB12, L13 PD15, L14 PD14, L15 PN12, M1 PA0, M2 PA1, M3 PA4, M4 PA7, M5 PF11, M6 PE7, M7 VSS, M8 VDDXSPI1, M9 VSS, M10 VDDXSPI1, M11 PO3, M12 PP10, M13 PB14, M14 PB15, M15 VSS, N1 PA3, N2 PA5, N3 PC5, N4 PB2, N5 PF15, N6 PP12, N7 PP14, N8 VSS, N9 PP2, N10 PP5, N11 PO2, N12 PP1, N13 PD12, N14 PB11, N15 PB13, P1 PA6, P2 PB0, P3 PF13, P4 PF14, P5 PE9, P6 PP11, P7 PO1, P8 PP15, P9 PP3, P10 PO5, P11 PP0, P12 PP7, P13 PP8, P14 PD13, P15 PB10, R1 VSS, R2 PB1, R3 PF12, R4 PE8, R5 PE10, R6 VSS, R7 PP13, R8 PP4, R9 VSS, R10 PO4, R11 PP6, R12 VSS, R13 PO0, R14 PP9, R15 VSS

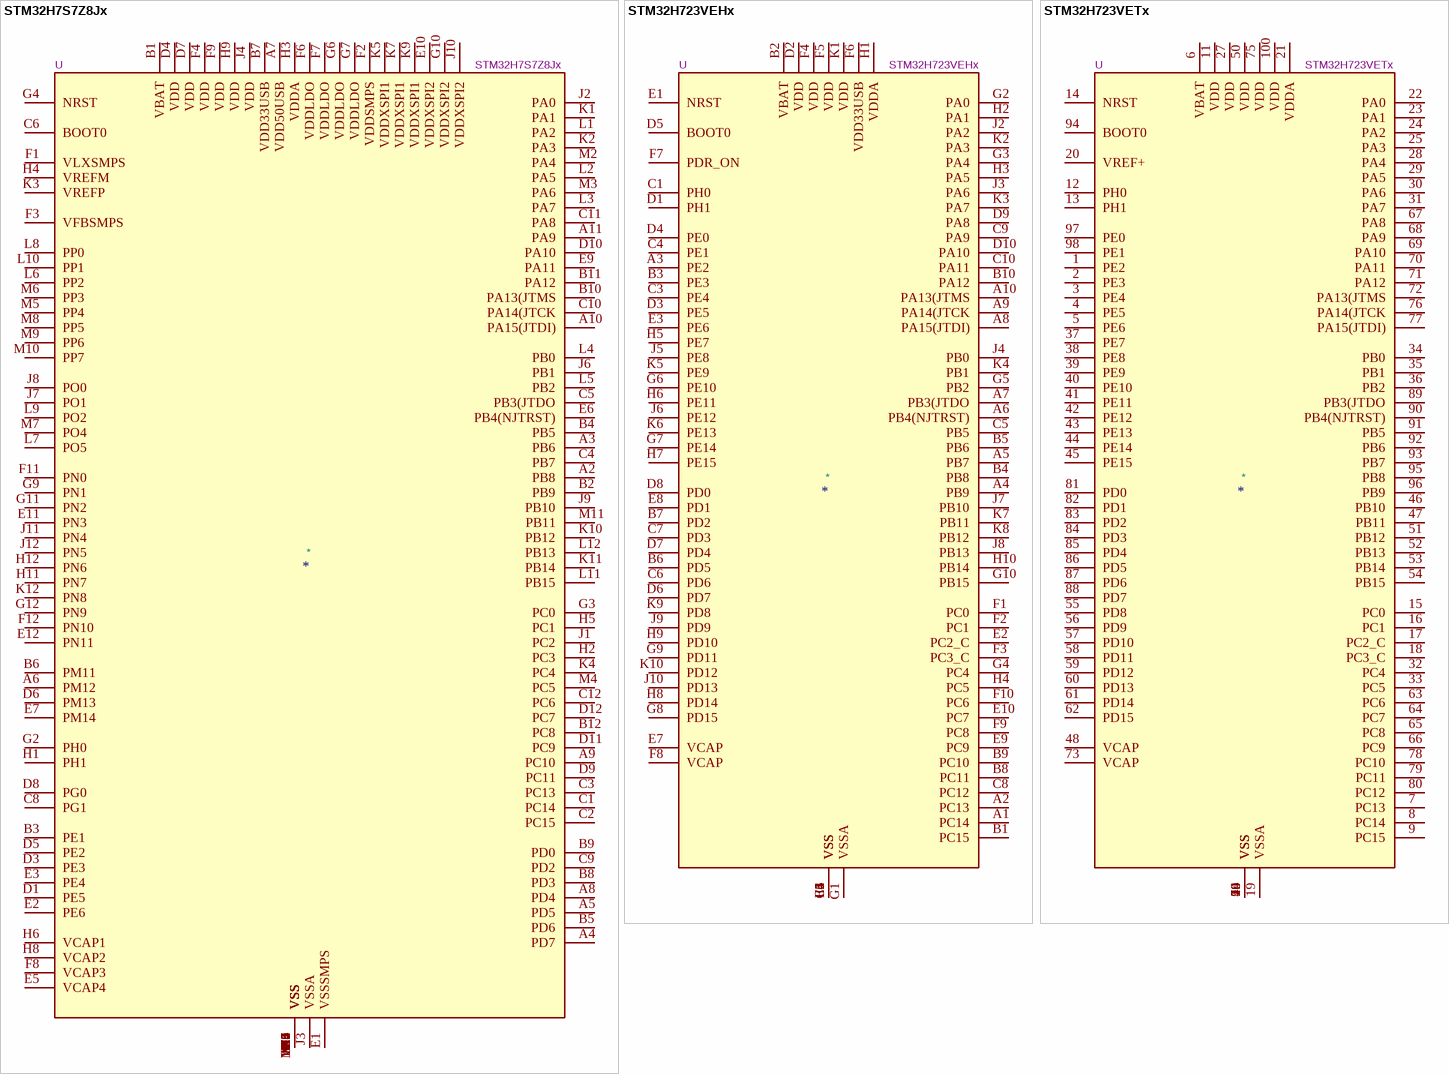
[diagram p38: symbols STM32H7S7Z8Jx to STM32H723VETx]

## STM32H7S7Z8Jx
designator *  value STM32H7S7Z8Jx  Reference: U
STMicroelectronics Arm Cortex-M7 MCU, 64KB flash, 620KB RAM, 600 MHz, 3.6-3.6V, 93 GPIO, UFBGA144; ki_keywords: Arm Cortex-M7 STM32H7 STM32H7R7/7S7; ki_fp_filters: UFBGA*10x10mm*Layout12x12*P0.8mm*; Footprint: Package_BGA:UFBGA-144_10x10mm_Layout12x12_P0.8mm; Datasheet: https://www.st.com/resource/en/datasheet/stm32h7s7z8.pdf; Description_: STMicroelectronics Arm Cortex-M7 MCU, 64KB flash, 620KB RAM, 600 MHz, 3.6-3.6V, 93 GPIO, UFBGA144
pins: A1 VSS, A2 PB8, A3 PB6, A4 PD7, A5 PD5, A6 PM12, A7 VDD50USB, A8 PD4, A9 PC10, A10 PA15(JTDI), A11 PA9, A12 VSS, B1 VBAT, B2 PB9, B3 PE1, B4 PB5, B5 PD6, B6 PM11, B7 VDD33USB, B8 PD3, B9 PD0, B10 PA13(JTMS, B11 PA12, B12 PC8, C1 PC14, C2 PC15, C3 PC13, C4 PB7, C5 PB3(JTDO, C6 BOOT0, C7 VSS, C8 PG1, C9 PD2, C10 PA14(JTCK, C11 PA8, C12 PC6, D1 PE5, D2 VSS, D3 PE3, D4 VDD, D5 PE2, D6 PM13, D7 VDD, D8 PG0, D9 PC11, D10 PA10, D11 PC9, D12 PC7, E1 VSSSMPS, E2 PE6, E3 PE4, E4 VSS, E5 VCAP4, E6 PB4(NJTRST), E7 PM14, E8 VSS, E9 PA11, E10 VDDXSPI2, E11 PN3, E12 PN11, F1 VLXSMPS, F2 VDDSMPS, F3 VFBSMPS, F4 VDD, F5 VSS, F6 VDDLDO, F7 VDDLDO, F8 VCAP3, F9 VDD, F10 VSS, F11 PN0, F12 PN10, G1 VSS, G2 PH0, G3 PC0, G4 NRST, G5 VSS, G6 VDDLDO, G7 VDDLDO, G8 VSS, G9 PN1, G10 VDDXSPI2, G11 PN2, G12 PN9, H1 PH1, H2 PC3, H3 VDDA, H4 VREFM, H5 PC1, H6 VCAP1, H7 VSS, H8 VCAP2, H9 VDD, H10 VSS, H11 PN7, H12 PN6, J1 PC2, J2 PA0, J3 VSSA, J4 VDD, J5 VSS, J6 PB1, J7 PO1, J8 PO0, J9 PB10, J10 VDDXSPI2, J11 PN4, J12 PN5, K1 PA1, K2 PA3, K3 VREFP, K4 PC4, K5 VDDXSPI1, K6 VSS, K7 VDDXSPI1, K8 VSS, K9 VDDXSPI1, K10 PB12, K11 PB14, K12 PN8, L1 PA2, L2 PA5, L3 PA7, L4 PB0, L5 PB2, L6 PP2, L7 PO5, L8 PP0, L9 PO2, L10 PP1, L11 PB15, L12 PB13, M1 VSS, M2 PA4, M3 PA6, M4 PC5, M5 PP4, M6 PP3, M7 PO4, M8 PP5, M9 PP6, M10 PP7, M11 PB11, M12 VSS

## STM32H723VEHx
designator *  value STM32H723VEHx  Reference: U
STMicroelectronics Arm Cortex-M7 MCU, 512KB flash, 564KB RAM, 550 MHz, 1.62-3.6V, 82 GPIO, TFBGA100; ki_keywords: Arm Cortex-M7 STM32H7 STM32H723/733; ki_fp_filters: TFBGA*8x8mm*Layout10x10*P0.8mm*; Footprint: Package_BGA:TFBGA-100_8x8mm_Layout10x10_P0.8mm; Datasheet: https://www.st.com/resource/en/datasheet/stm32h723ve.pdf; Description_: STMicroelectronics Arm Cortex-M7 MCU, 512KB flash, 564KB RAM, 550 MHz, 1.62-3.6V, 82 GPIO, TFBGA100
pins: A1 PC14, A2 PC13, A3 PE2, A4 PB9, A5 PB7, A6 PB4(NJTRST), A7 PB3(JTDO, A8 PA15(JTDI), A9 PA14(JTCK, A10 PA13(JTMS, B1 PC15, B2 VBAT, B3 PE3, B4 PB8, B5 PB6, B6 PD5, B7 PD2, B8 PC11, B9 PC10, B10 PA12, C1 PH0, C2 VSS, C3 PE4, C4 PE1, C5 PB5, C6 PD6, C7 PD3, C8 PC12, C9 PA9, C10 PA11, D1 PH1, D2 VDD, D3 PE5, D4 PE0, D5 BOOT0, D6 PD7, D7 PD4, D8 PD0, D9 PA8, D10 PA10, E1 NRST, E2 PC2_C, E3 PE6, E4 VSS, E5 VSS, E6 VSS, E7 VCAP, E8 PD1, E9 PC9, E10 PC7, F1 PC0, F2 PC1, F3 PC3_C, F4 VDD, F5 VDD, F6 VDD33USB, F7 PDR_ON, F8 VCAP, F9 PC8, F10 PC6, G1 VSSA, G2 PA0, G3 PA4, G4 PC4, G5 PB2, G6 PE10, G7 PE14, G8 PD15, G9 PD11, G10 PB15, H1 VDDA, H2 PA1, H3 PA5, H4 PC5, H5 PE7, H6 PE11, H7 PE15, H8 PD14, H9 PD10, H10 PB14, J1 VSS, J2 PA2, J3 PA6, J4 PB0, J5 PE8, J6 PE12, J7 PB10, J8 PB13, J9 PD9, J10 PD13, K1 VDD, K2 PA3, K3 PA7, K4 PB1, K5 PE9, K6 PE13, K7 PB11, K8 PB12, K9 PD8, K10 PD12

## STM32H723VETx
designator *  value STM32H723VETx  Reference: U
STMicroelectronics Arm Cortex-M7 MCU, 512KB flash, 564KB RAM, 550 MHz, 1.71-3.6V, 82 GPIO, LQFP100; ki_keywords: Arm Cortex-M7 STM32H7 STM32H723/733; ki_fp_filters: LQFP*14x14mm*P0.5mm*; Footprint: Package_QFP:LQFP-100_14x14mm_P0.5mm; Datasheet: https://www.st.com/resource/en/datasheet/stm32h723ve.pdf; Description_: STMicroelectronics Arm Cortex-M7 MCU, 512KB flash, 564KB RAM, 550 MHz, 1.71-3.6V, 82 GPIO, LQFP100
pins: 1 PE2, 2 PE3, 3 PE4, 4 PE5, 5 PE6, 6 VBAT, 7 PC13, 8 PC14, 9 PC15, 10 VSS, 11 VDD, 12 PH0, 13 PH1, 14 NRST, 15 PC0, 16 PC1, 17 PC2_C, 18 PC3_C, 19 VSSA, 20 VREF+, 21 VDDA, 22 PA0, 23 PA1, 24 PA2, 25 PA3, 26 VSS, 27 VDD, 28 PA4, 29 PA5, 30 PA6, 31 PA7, 32 PC4, 33 PC5, 34 PB0, 35 PB1, 36 PB2, 37 PE7, 38 PE8, 39 PE9, 40 PE10, 41 PE11, 42 PE12, 43 PE13, 44 PE14, 45 PE15, 46 PB10, 47 PB11, 48 VCAP, 49 VSS, 50 VDD, 51 PB12, 52 PB13, 53 PB14, 54 PB15, 55 PD8, 56 PD9, 57 PD10, 58 PD11, 59 PD12, 60 PD13, 61 PD14, 62 PD15, 63 PC6, 64 PC7, 65 PC8, 66 PC9, 67 PA8, 68 PA9, 69 PA10, 70 PA11, 71 PA12, 72 PA13(JTMS, 73 VCAP, 74 VSS, 75 VDD, 76 PA14(JTCK, 77 PA15(JTDI), 78 PC10, 79 PC11, 80 PC12, 81 PD0, 82 PD1, 83 PD2, 84 PD3, 85 PD4, 86 PD5, 87 PD6, 88 PD7, 89 PB3(JTDO, 90 PB4(NJTRST), 91 PB5, 92 PB6, 93 PB7, 94 BOOT0, 95 PB8, 96 PB9, 97 PE0, 98 PE1, 99 VSS, 100 VDD

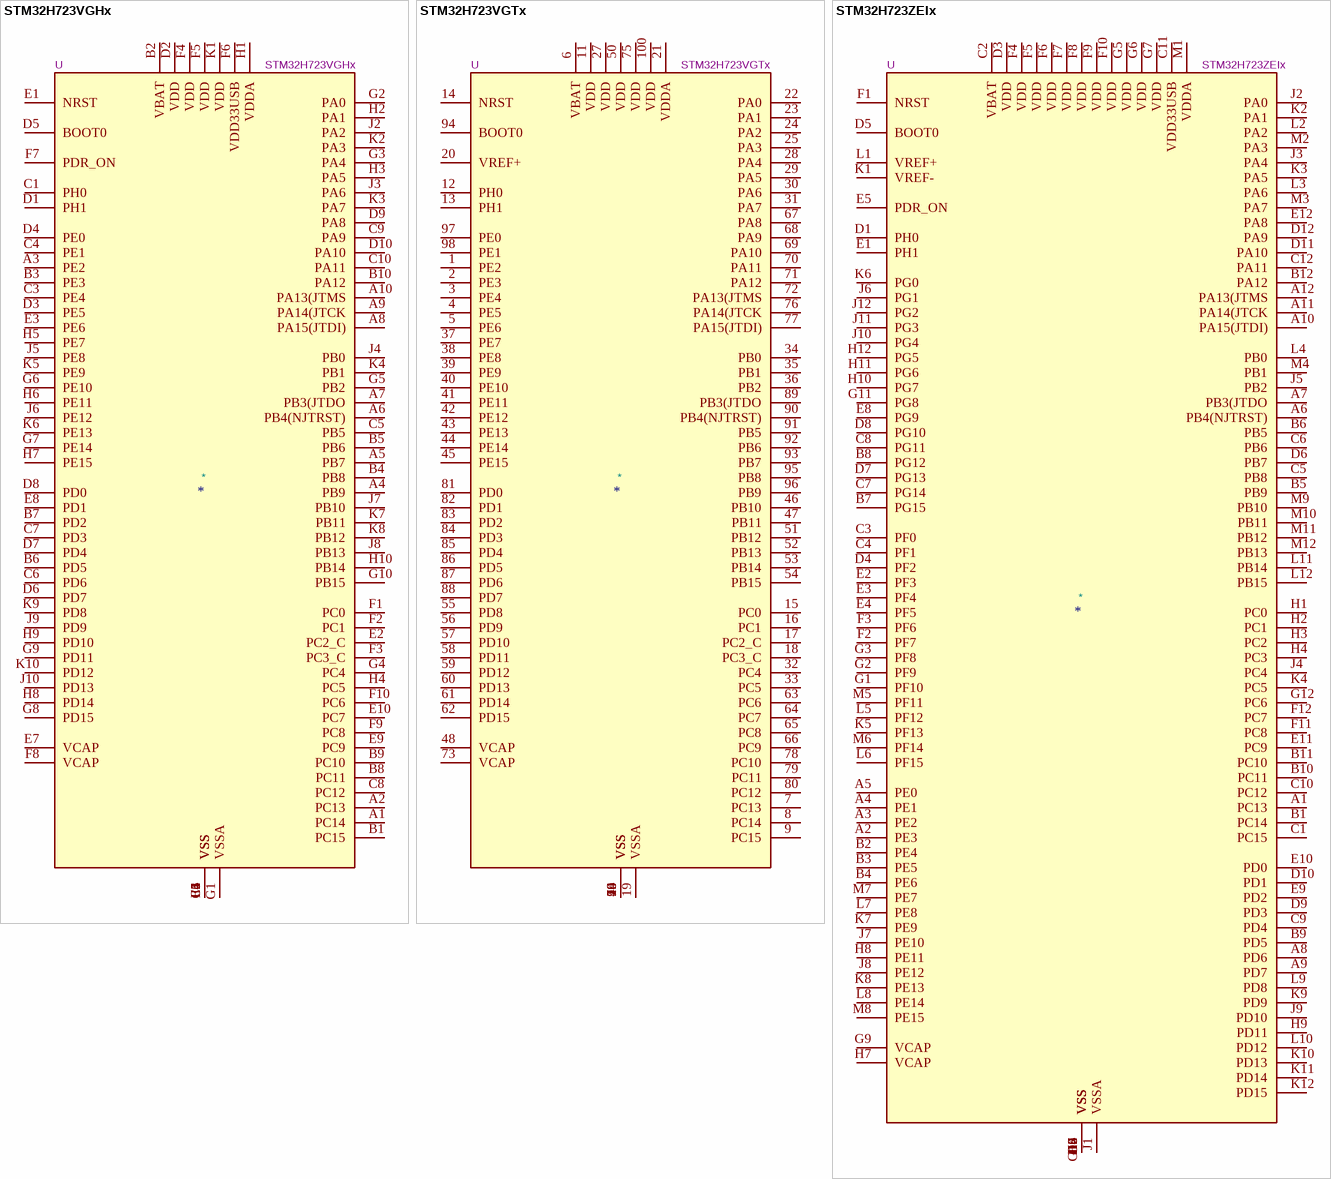
[diagram p39: symbols STM32H723VGHx to STM32H723ZEIx]

## STM32H723VGHx
designator *  value STM32H723VGHx  Reference: U
STMicroelectronics Arm Cortex-M7 MCU, 1024KB flash, 564KB RAM, 550 MHz, 1.62-3.6V, 82 GPIO, TFBGA100; ki_keywords: Arm Cortex-M7 STM32H7 STM32H723/733; ki_fp_filters: TFBGA*8x8mm*Layout10x10*P0.8mm*; Footprint: Package_BGA:TFBGA-100_8x8mm_Layout10x10_P0.8mm; Datasheet: https://www.st.com/resource/en/datasheet/stm32h723vg.pdf; Description_: STMicroelectronics Arm Cortex-M7 MCU, 1024KB flash, 564KB RAM, 550 MHz, 1.62-3.6V, 82 GPIO, TFBGA100
pins: A1 PC14, A2 PC13, A3 PE2, A4 PB9, A5 PB7, A6 PB4(NJTRST), A7 PB3(JTDO, A8 PA15(JTDI), A9 PA14(JTCK, A10 PA13(JTMS, B1 PC15, B2 VBAT, B3 PE3, B4 PB8, B5 PB6, B6 PD5, B7 PD2, B8 PC11, B9 PC10, B10 PA12, C1 PH0, C2 VSS, C3 PE4, C4 PE1, C5 PB5, C6 PD6, C7 PD3, C8 PC12, C9 PA9, C10 PA11, D1 PH1, D2 VDD, D3 PE5, D4 PE0, D5 BOOT0, D6 PD7, D7 PD4, D8 PD0, D9 PA8, D10 PA10, E1 NRST, E2 PC2_C, E3 PE6, E4 VSS, E5 VSS, E6 VSS, E7 VCAP, E8 PD1, E9 PC9, E10 PC7, F1 PC0, F2 PC1, F3 PC3_C, F4 VDD, F5 VDD, F6 VDD33USB, F7 PDR_ON, F8 VCAP, F9 PC8, F10 PC6, G1 VSSA, G2 PA0, G3 PA4, G4 PC4, G5 PB2, G6 PE10, G7 PE14, G8 PD15, G9 PD11, G10 PB15, H1 VDDA, H2 PA1, H3 PA5, H4 PC5, H5 PE7, H6 PE11, H7 PE15, H8 PD14, H9 PD10, H10 PB14, J1 VSS, J2 PA2, J3 PA6, J4 PB0, J5 PE8, J6 PE12, J7 PB10, J8 PB13, J9 PD9, J10 PD13, K1 VDD, K2 PA3, K3 PA7, K4 PB1, K5 PE9, K6 PE13, K7 PB11, K8 PB12, K9 PD8, K10 PD12

## STM32H723VGTx
designator *  value STM32H723VGTx  Reference: U
STMicroelectronics Arm Cortex-M7 MCU, 1024KB flash, 564KB RAM, 550 MHz, 1.71-3.6V, 82 GPIO, LQFP100; ki_keywords: Arm Cortex-M7 STM32H7 STM32H723/733; ki_fp_filters: LQFP*14x14mm*P0.5mm*; Footprint: Package_QFP:LQFP-100_14x14mm_P0.5mm; Datasheet: https://www.st.com/resource/en/datasheet/stm32h723vg.pdf; Description_: STMicroelectronics Arm Cortex-M7 MCU, 1024KB flash, 564KB RAM, 550 MHz, 1.71-3.6V, 82 GPIO, LQFP100
pins: 1 PE2, 2 PE3, 3 PE4, 4 PE5, 5 PE6, 6 VBAT, 7 PC13, 8 PC14, 9 PC15, 10 VSS, 11 VDD, 12 PH0, 13 PH1, 14 NRST, 15 PC0, 16 PC1, 17 PC2_C, 18 PC3_C, 19 VSSA, 20 VREF+, 21 VDDA, 22 PA0, 23 PA1, 24 PA2, 25 PA3, 26 VSS, 27 VDD, 28 PA4, 29 PA5, 30 PA6, 31 PA7, 32 PC4, 33 PC5, 34 PB0, 35 PB1, 36 PB2, 37 PE7, 38 PE8, 39 PE9, 40 PE10, 41 PE11, 42 PE12, 43 PE13, 44 PE14, 45 PE15, 46 PB10, 47 PB11, 48 VCAP, 49 VSS, 50 VDD, 51 PB12, 52 PB13, 53 PB14, 54 PB15, 55 PD8, 56 PD9, 57 PD10, 58 PD11, 59 PD12, 60 PD13, 61 PD14, 62 PD15, 63 PC6, 64 PC7, 65 PC8, 66 PC9, 67 PA8, 68 PA9, 69 PA10, 70 PA11, 71 PA12, 72 PA13(JTMS, 73 VCAP, 74 VSS, 75 VDD, 76 PA14(JTCK, 77 PA15(JTDI), 78 PC10, 79 PC11, 80 PC12, 81 PD0, 82 PD1, 83 PD2, 84 PD3, 85 PD4, 86 PD5, 87 PD6, 88 PD7, 89 PB3(JTDO, 90 PB4(NJTRST), 91 PB5, 92 PB6, 93 PB7, 94 BOOT0, 95 PB8, 96 PB9, 97 PE0, 98 PE1, 99 VSS, 100 VDD

## STM32H723ZEIx
designator *  value STM32H723ZEIx  Reference: U
STMicroelectronics Arm Cortex-M7 MCU, 512KB flash, 564KB RAM, 550 MHz, 1.62-3.6V, 114 GPIO, UFBGA144; ki_keywords: Arm Cortex-M7 STM32H7 STM32H723/733; ki_fp_filters: UFBGA*7x7mm*Layout12x12*P0.5mm*; Footprint: Package_BGA:UFBGA-144_7x7mm_Layout12x12_P0.5mm; Datasheet: https://www.st.com/resource/en/datasheet/stm32h723ze.pdf; Description_: STMicroelectronics Arm Cortex-M7 MCU, 512KB flash, 564KB RAM, 550 MHz, 1.62-3.6V, 114 GPIO, UFBGA144
pins: A1 PC13, A2 PE3, A3 PE2, A4 PE1, A5 PE0, A6 PB4(NJTRST), A7 PB3(JTDO, A8 PD6, A9 PD7, A10 PA15(JTDI), A11 PA14(JTCK, A12 PA13(JTMS, B1 PC14, B2 PE4, B3 PE5, B4 PE6, B5 PB9, B6 PB5, B7 PG15, B8 PG12, B9 PD5, B10 PC11, B11 PC10, B12 PA12, C1 PC15, C2 VBAT, C3 PF0, C4 PF1, C5 PB8, C6 PB6, C7 PG14, C8 PG11, C9 PD4, C10 PC12, C11 VDD33USB, C12 PA11, D1 PH0, D2 VSS, D3 VDD, D4 PF2, D5 BOOT0, D6 PB7, D7 PG13, D8 PG10, D9 PD3, D10 PD1, D11 PA10, D12 PA9, E1 PH1, E2 PF3, E3 PF4, E4 PF5, E5 PDR_ON, E6 VSS, E7 VSS, E8 PG9, E9 PD2, E10 PD0, E11 PC9, E12 PA8, F1 NRST, F2 PF7, F3 PF6, F4 VDD, F5 VDD, F6 VDD, F7 VDD, F8 VDD, F9 VDD, F10 VDD, F11 PC8, F12 PC7, G1 PF10, G2 PF9, G3 PF8, G4 VSS, G5 VDD, G6 VDD, G7 VDD, G8 VSS, G9 VCAP, G10 VSS, G11 PG8, G12 PC6, H1 PC0, H2 PC1, H3 PC2, H4 PC3, H5 VSS, H6 VSS, H7 VCAP, H8 PE11, H9 PD11, H10 PG7, H11 PG6, H12 PG5, J1 VSSA, J2 PA0, J3 PA4, J4 PC4, J5 PB2, J6 PG1, J7 PE10, J8 PE12, J9 PD10, J10 PG4, J11 PG3, J12 PG2, K1 VREF-, K2 PA1, K3 PA5, K4 PC5, K5 PF13, K6 PG0, K7 PE9, K8 PE13, K9 PD9, K10 PD13, K11 PD14, K12 PD15, L1 VREF+, L2 PA2, L3 PA6, L4 PB0, L5 PF12, L6 PF15, L7 PE8, L8 PE14, L9 PD8, L10 PD12, L11 PB14, L12 PB15, M1 VDDA, M2 PA3, M3 PA7, M4 PB1, M5 PF11, M6 PF14, M7 PE7, M8 PE15, M9 PB10, M10 PB11, M11 PB12, M12 PB13

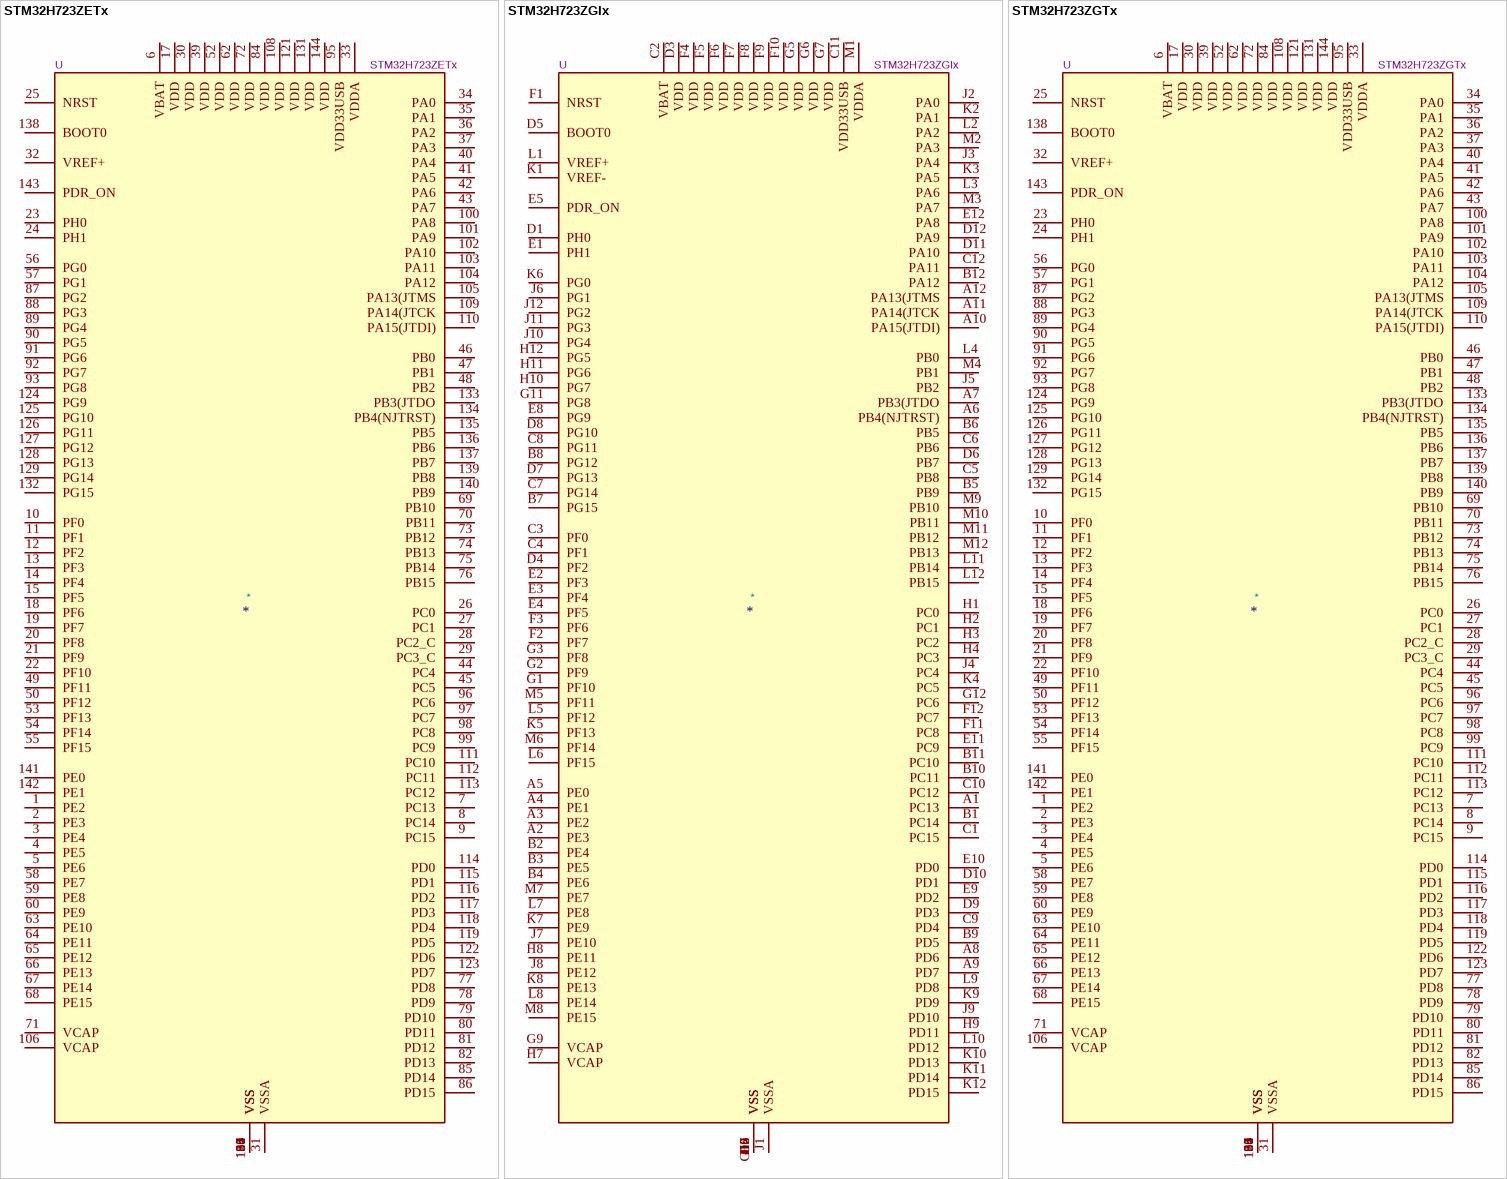
[diagram p40: symbols STM32H723ZETx to STM32H723ZGTx]

## STM32H723ZETx
designator *  value STM32H723ZETx  Reference: U
STMicroelectronics Arm Cortex-M7 MCU, 512KB flash, 564KB RAM, 550 MHz, 1.62-3.6V, 114 GPIO, LQFP144; ki_keywords: Arm Cortex-M7 STM32H7 STM32H723/733; ki_fp_filters: LQFP*20x20mm*P0.5mm*; Footprint: Package_QFP:LQFP-144_20x20mm_P0.5mm; Datasheet: https://www.st.com/resource/en/datasheet/stm32h723ze.pdf; Description_: STMicroelectronics Arm Cortex-M7 MCU, 512KB flash, 564KB RAM, 550 MHz, 1.62-3.6V, 114 GPIO, LQFP144
pins: 1 PE2, 2 PE3, 3 PE4, 4 PE5, 5 PE6, 6 VBAT, 7 PC13, 8 PC14, 9 PC15, 10 PF0, 11 PF1, 12 PF2, 13 PF3, 14 PF4, 15 PF5, 16 VSS, 17 VDD, 18 PF6, 19 PF7, 20 PF8, 21 PF9, 22 PF10, 23 PH0, 24 PH1, 25 NRST, 26 PC0, 27 PC1, 28 PC2_C, 29 PC3_C, 30 VDD, 31 VSSA, 32 VREF+, 33 VDDA, 34 PA0, 35 PA1, 36 PA2, 37 PA3, 38 VSS, 39 VDD, 40 PA4, 41 PA5, 42 PA6, 43 PA7, 44 PC4, 45 PC5, 46 PB0, 47 PB1, 48 PB2, 49 PF11, 50 PF12, 51 VSS, 52 VDD, 53 PF13, 54 PF14, 55 PF15, 56 PG0, 57 PG1, 58 PE7, 59 PE8, 60 PE9, 61 VSS, 62 VDD, 63 PE10, 64 PE11, 65 PE12, 66 PE13, 67 PE14, 68 PE15, 69 PB10, 70 PB11, 71 VCAP, 72 VDD, 73 PB12, 74 PB13, 75 PB14, 76 PB15, 77 PD8, 78 PD9, 79 PD10, 80 PD11, 81 PD12, 82 PD13, 83 VSS, 84 VDD, 85 PD14, 86 PD15, 87 PG2, 88 PG3, 89 PG4, 90 PG5, 91 PG6, 92 PG7, 93 PG8, 94 VSS, 95 VDD33USB, 96 PC6, 97 PC7, 98 PC8, 99 PC9, 100 PA8, 101 PA9, 102 PA10, 103 PA11, 104 PA12, 105 PA13(JTMS, 106 VCAP, 107 VSS, 108 VDD, 109 PA14(JTCK, 110 PA15(JTDI), 111 PC10, 112 PC11, 113 PC12, 114 PD0, 115 PD1, 116 PD2, 117 PD3, 118 PD4, 119 PD5, 120 VSS, 121 VDD, 122 PD6, 123 PD7, 124 PG9, 125 PG10, 126 PG11, 127 PG12, 128 PG13, 129 PG14, 130 VSS, 131 VDD, 132 PG15, 133 PB3(JTDO, 134 PB4(NJTRST), 135 PB5, 136 PB6, 137 PB7, 138 BOOT0, 139 PB8, 140 PB9, 141 PE0, 142 PE1, 143 PDR_ON, 144 VDD

## STM32H723ZGIx
designator *  value STM32H723ZGIx  Reference: U
STMicroelectronics Arm Cortex-M7 MCU, 1024KB flash, 564KB RAM, 550 MHz, 1.62-3.6V, 114 GPIO, UFBGA144; ki_keywords: Arm Cortex-M7 STM32H7 STM32H723/733; ki_fp_filters: UFBGA*7x7mm*Layout12x12*P0.5mm*; Footprint: Package_BGA:UFBGA-144_7x7mm_Layout12x12_P0.5mm; Datasheet: https://www.st.com/resource/en/datasheet/stm32h723zg.pdf; Description_: STMicroelectronics Arm Cortex-M7 MCU, 1024KB flash, 564KB RAM, 550 MHz, 1.62-3.6V, 114 GPIO, UFBGA144
pins: A1 PC13, A2 PE3, A3 PE2, A4 PE1, A5 PE0, A6 PB4(NJTRST), A7 PB3(JTDO, A8 PD6, A9 PD7, A10 PA15(JTDI), A11 PA14(JTCK, A12 PA13(JTMS, B1 PC14, B2 PE4, B3 PE5, B4 PE6, B5 PB9, B6 PB5, B7 PG15, B8 PG12, B9 PD5, B10 PC11, B11 PC10, B12 PA12, C1 PC15, C2 VBAT, C3 PF0, C4 PF1, C5 PB8, C6 PB6, C7 PG14, C8 PG11, C9 PD4, C10 PC12, C11 VDD33USB, C12 PA11, D1 PH0, D2 VSS, D3 VDD, D4 PF2, D5 BOOT0, D6 PB7, D7 PG13, D8 PG10, D9 PD3, D10 PD1, D11 PA10, D12 PA9, E1 PH1, E2 PF3, E3 PF4, E4 PF5, E5 PDR_ON, E6 VSS, E7 VSS, E8 PG9, E9 PD2, E10 PD0, E11 PC9, E12 PA8, F1 NRST, F2 PF7, F3 PF6, F4 VDD, F5 VDD, F6 VDD, F7 VDD, F8 VDD, F9 VDD, F10 VDD, F11 PC8, F12 PC7, G1 PF10, G2 PF9, G3 PF8, G4 VSS, G5 VDD, G6 VDD, G7 VDD, G8 VSS, G9 VCAP, G10 VSS, G11 PG8, G12 PC6, H1 PC0, H2 PC1, H3 PC2, H4 PC3, H5 VSS, H6 VSS, H7 VCAP, H8 PE11, H9 PD11, H10 PG7, H11 PG6, H12 PG5, J1 VSSA, J2 PA0, J3 PA4, J4 PC4, J5 PB2, J6 PG1, J7 PE10, J8 PE12, J9 PD10, J10 PG4, J11 PG3, J12 PG2, K1 VREF-, K2 PA1, K3 PA5, K4 PC5, K5 PF13, K6 PG0, K7 PE9, K8 PE13, K9 PD9, K10 PD13, K11 PD14, K12 PD15, L1 VREF+, L2 PA2, L3 PA6, L4 PB0, L5 PF12, L6 PF15, L7 PE8, L8 PE14, L9 PD8, L10 PD12, L11 PB14, L12 PB15, M1 VDDA, M2 PA3, M3 PA7, M4 PB1, M5 PF11, M6 PF14, M7 PE7, M8 PE15, M9 PB10, M10 PB11, M11 PB12, M12 PB13